# Altium integrated library alexsb.IntLib: 281 symbols (part 1 of 2)
Pins are listed as number, name and electrical type; pins without a type are passive.

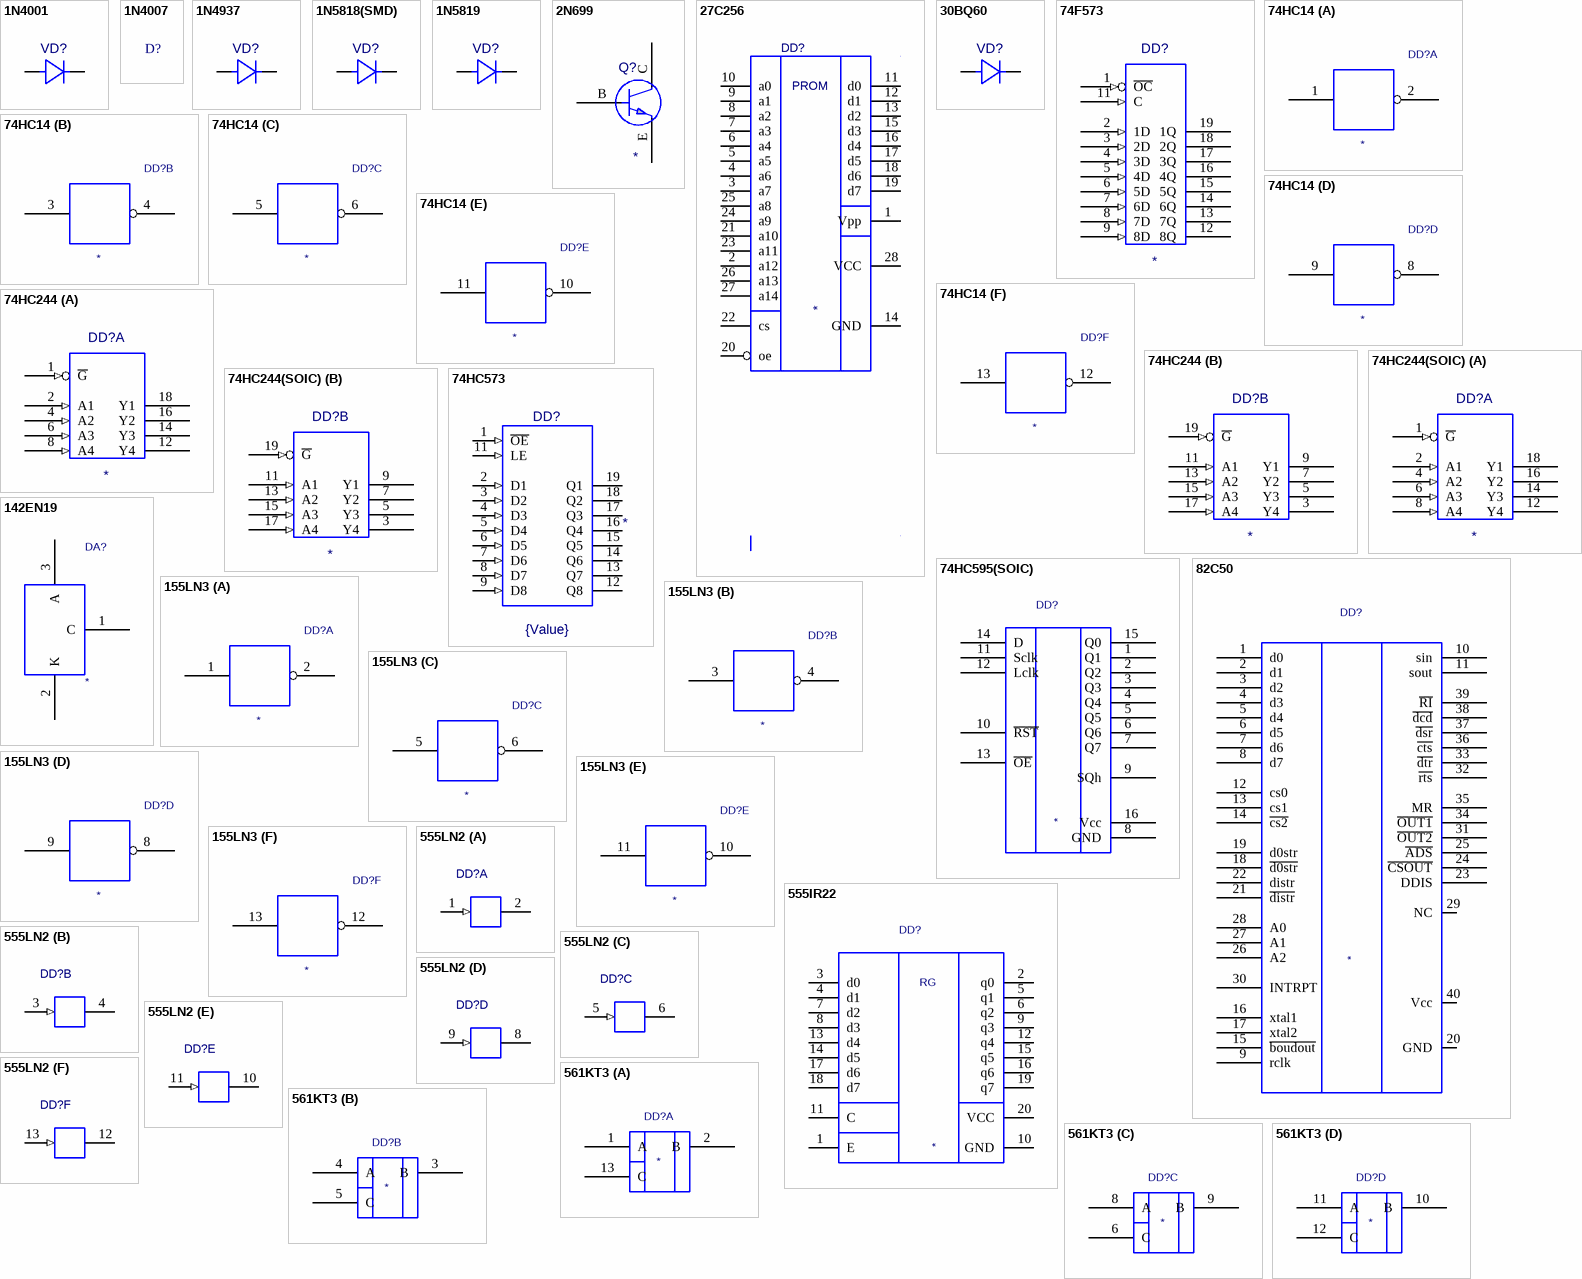
[diagram p0: symbols 1N4001 to 561KT3]

## 1N4001
designator VD?  (value not drawn)
Lead-Mounted Silicon Rectifier, Diffused Junction; Value: {Value}
footprint DO-41
pins: 1, 2

## 1N4007
designator D?  (value not drawn)
Lead-Mounted Silicon Rectifier, Diffused Junction; Value: *
footprint DO-41_1N4007(Primary)

## 1N4937
designator VD?  (value not drawn)
Lead-Mounted Silicon Rectifier, Diffused Junction; Value: {Value}
footprint DO-41
pins: 1, 2

## 1N5818(SMD)
designator VD?  (value not drawn)
1N5818(SMD); Value: {Value}
footprint 1N5818(SMD)
pins: 1, 2

## 1N5819
designator VD?  (value not drawn)
Schottky Barrier Rectifier, 1 Ampere; Value: {Value}
footprint DO-41_1N5819(Primary)
pins: A, K

## 2N699
designator Q?
General Purpose NPN Transistor; Value: {Value}
pins: B, C, E

## 27C256
designator DD?
27C256; Value: *
footprint DIP28
pins: 1 Vpp, 2 a12, 3 a7, 4 a6, 5 a5, 6 a4, 7 a3, 8 a2, 9 a1, 10 a0, 11 d0, 12 d1, 13 d2, 14 GND (power), 15 d3, 16 d4, 17 d5, 18 d6, 19 d7, 20 oe, 21 a10, 22 cs, 23 a11, 24 a9, 25 a8, 26 a13, 27 a14, 28 VCC (power)
text: PROM

## 30BQ60
designator VD?  (value not drawn)
30BQ60; Value: {Value}
footprint SMC
pins: 1, 2

## 74F573
designator DD?
Octal Transparent LATCHES 3-State; Value: *
footprint DIP20
pins: 1 ~{OC} (in), 2 1D (in), 3 2D (in), 4 3D (in), 5 4D (in), 6 5D (in), 7 6D (in), 8 7D (in), 9 8D (in), 10 GND (power) hidden, 11 C (in), 12 8Q (hiz), 13 7Q (hiz), 14 6Q (hiz), 15 5Q (hiz), 16 4Q (hiz), 17 3Q (hiz), 18 2Q (hiz), 19 1Q (hiz), 20 VCC (power) hidden
1 alternate drawing of the same symbol

## 74HC14
designator DD?
74HC14; Value: *
footprint DIP14
pins on every part: 7 GND (power) hidden, 14 Vcc (power) hidden
part A pins: 1 0, 2 0
part B pins: 3 0, 4 0
part C pins: 5 0, 6 0
part D pins: 8 0, 9 0
part E pins: 10 0, 11 0
part F pins: 12 0, 13 0

## 74HC244
designator DD?
Octal BUFFERS and LINE DRIVERS with 3-State Outputs; Value: *
footprint DIP20
pins on every part: 10 GND (power) hidden, 20 VCC (power) hidden
part A pins: 1 ~{G} (in), 2 A1 (in), 4 A2 (in), 6 A3 (in), 8 A4 (in), 12 Y4 (hiz), 14 Y3 (hiz), 16 Y2 (hiz), 18 Y1 (hiz)
part B pins: 3 Y4 (hiz), 5 Y3 (hiz), 7 Y2 (hiz), 9 Y1 (hiz), 11 A1 (in), 13 A2 (in), 15 A3 (in), 17 A4 (in), 19 ~{G} (in)
1 alternate drawing of the same symbol

## 74HC244(SOIC)
designator DD?
Octal BUFFERS and LINE DRIVERS with 3-State Outputs; Value: *
footprint SO-G20/G7.1
pins on every part: 10 GND (power) hidden, 20 VCC (power) hidden
part A pins: 1 ~{G} (in), 2 A1 (in), 4 A2 (in), 6 A3 (in), 8 A4 (in), 12 Y4 (hiz), 14 Y3 (hiz), 16 Y2 (hiz), 18 Y1 (hiz)
part B pins: 3 Y4 (hiz), 5 Y3 (hiz), 7 Y2 (hiz), 9 Y1 (hiz), 11 A1 (in), 13 A2 (in), 15 A3 (in), 17 A4 (in), 19 ~{G} (in)
1 alternate drawing of the same symbol

## 74HC573
designator DD?  value {Value}
Octal Transparent D-Type Latches with 3-State Outputs; OriginalName: SN74ABT573ADW; ComponentField1: Power pins are hidden; ComponentField2: Published 8-Jun-2000.
footprint SO-G20/G7.1
pins: 1 ~{OE} (in), 2 D1 (in), 3 D2 (in), 4 D3 (in), 5 D4 (in), 6 D5 (in), 7 D6 (in), 8 D7 (in), 9 D8 (in), 10 GND (power) hidden, 11 LE (in), 12 Q8 (hiz), 13 Q7 (hiz), 14 Q6 (hiz), 15 Q5 (hiz), 16 Q4 (hiz), 17 Q3 (hiz), 18 Q2 (hiz), 19 Q1 (hiz), 20 VCC (power) hidden

## 74HC595(SOIC)
designator DD?
74HC595(SOIC); Value: *
footprint SO16
pins: 1 Q1, 2 Q2, 3 Q3, 4 Q4, 5 Q5, 6 Q6, 7 Q7, 8 GND, 9 SQh, 10 ~{RST}, 11 Sclk, 12 Lclk, 13 ~{OE}, 14 D, 15 Q0, 16 Vcc

## 82C50
designator DD?
82C50; Value: *
footprint DIP40
pins: 1 d0, 2 d1, 3 d2, 4 d3, 5 d4, 6 d5, 7 d6, 8 d7, 9 rclk, 10 sin, 11 sout, 12 cs0, 13 cs1, 14 ~{cs2}, 15 ~{boudout}, 16 xtal1, 17 xtal2, 18 ~{d0str}, 19 d0str, 20 GND, 21 ~{distr}, 22 distr, 23 DDIS, 24 ~{CSOUT}, 25 ~{ADS}, 26 A2, 27 A1, 28 A0, 29 NC, 30 INTRPT, 31 ~{OUT2}, 32 ~{rts}, 33 ~{dtr}, 34 ~{OUT1}, 35 MR, 36 ~{cts}, 37 ~{dsr}, 38 ~{dcd}, 39 ~{RI}, 40 Vcc

## 142EN19
designator DA?
142EN19; Value: *
footprint TO-92
pins: 1 C, 2 K, 3 A

## 155LN3
designator DD?
155LN3; Value: *
footprint DIP14
pins on every part: 7 0v (power) hidden, 14 +5v (power) hidden
part A pins: 1, 2
part B pins: 3, 4
part C pins: 5, 6
part D pins: 8, 9
part E pins: 10, 11
part F pins: 12, 13

## 555IR22
designator DD?
555IR22; Value: *
footprint DIP20
pins: 1 E, 2 q0, 3 d0, 4 d1, 5 q1, 6 q2, 7 d2, 8 d3, 9 q3, 10 GND (power), 11 C, 12 q4, 13 d4, 14 d5, 15 q5, 16 q6, 17 d6, 18 d7, 19 q7, 20 VCC (power)
text: RG

## 555LN2
designator DD?  (value not drawn)
555LN2; Value: *
footprint DIP14
pins on every part: 7 vcc (power) hidden, 14 0v (power) hidden
part A pins: 1 in (in), 2 out (oe)
part B pins: 3 in (in), 4 out (oe)
part C pins: 5 in (in), 6 out (oe)
part D pins: 8 out (oe), 9 in (in)
part E pins: 10 out (oe), 11 in (in)
part F pins: 12 out (oe), 13 in (in)

## 561KT3
designator DD?
561KT3; Value: *
footprint DIP14
pins on every part: 7 GND (power) hidden, 14 VCC (power) hidden
part A pins: 1 A, 2 B, 13 C
part B pins: 3 B, 4 A, 5 C
part C pins: 6 C, 8 A, 9 B
part D pins: 10 B, 11 A, 12 C

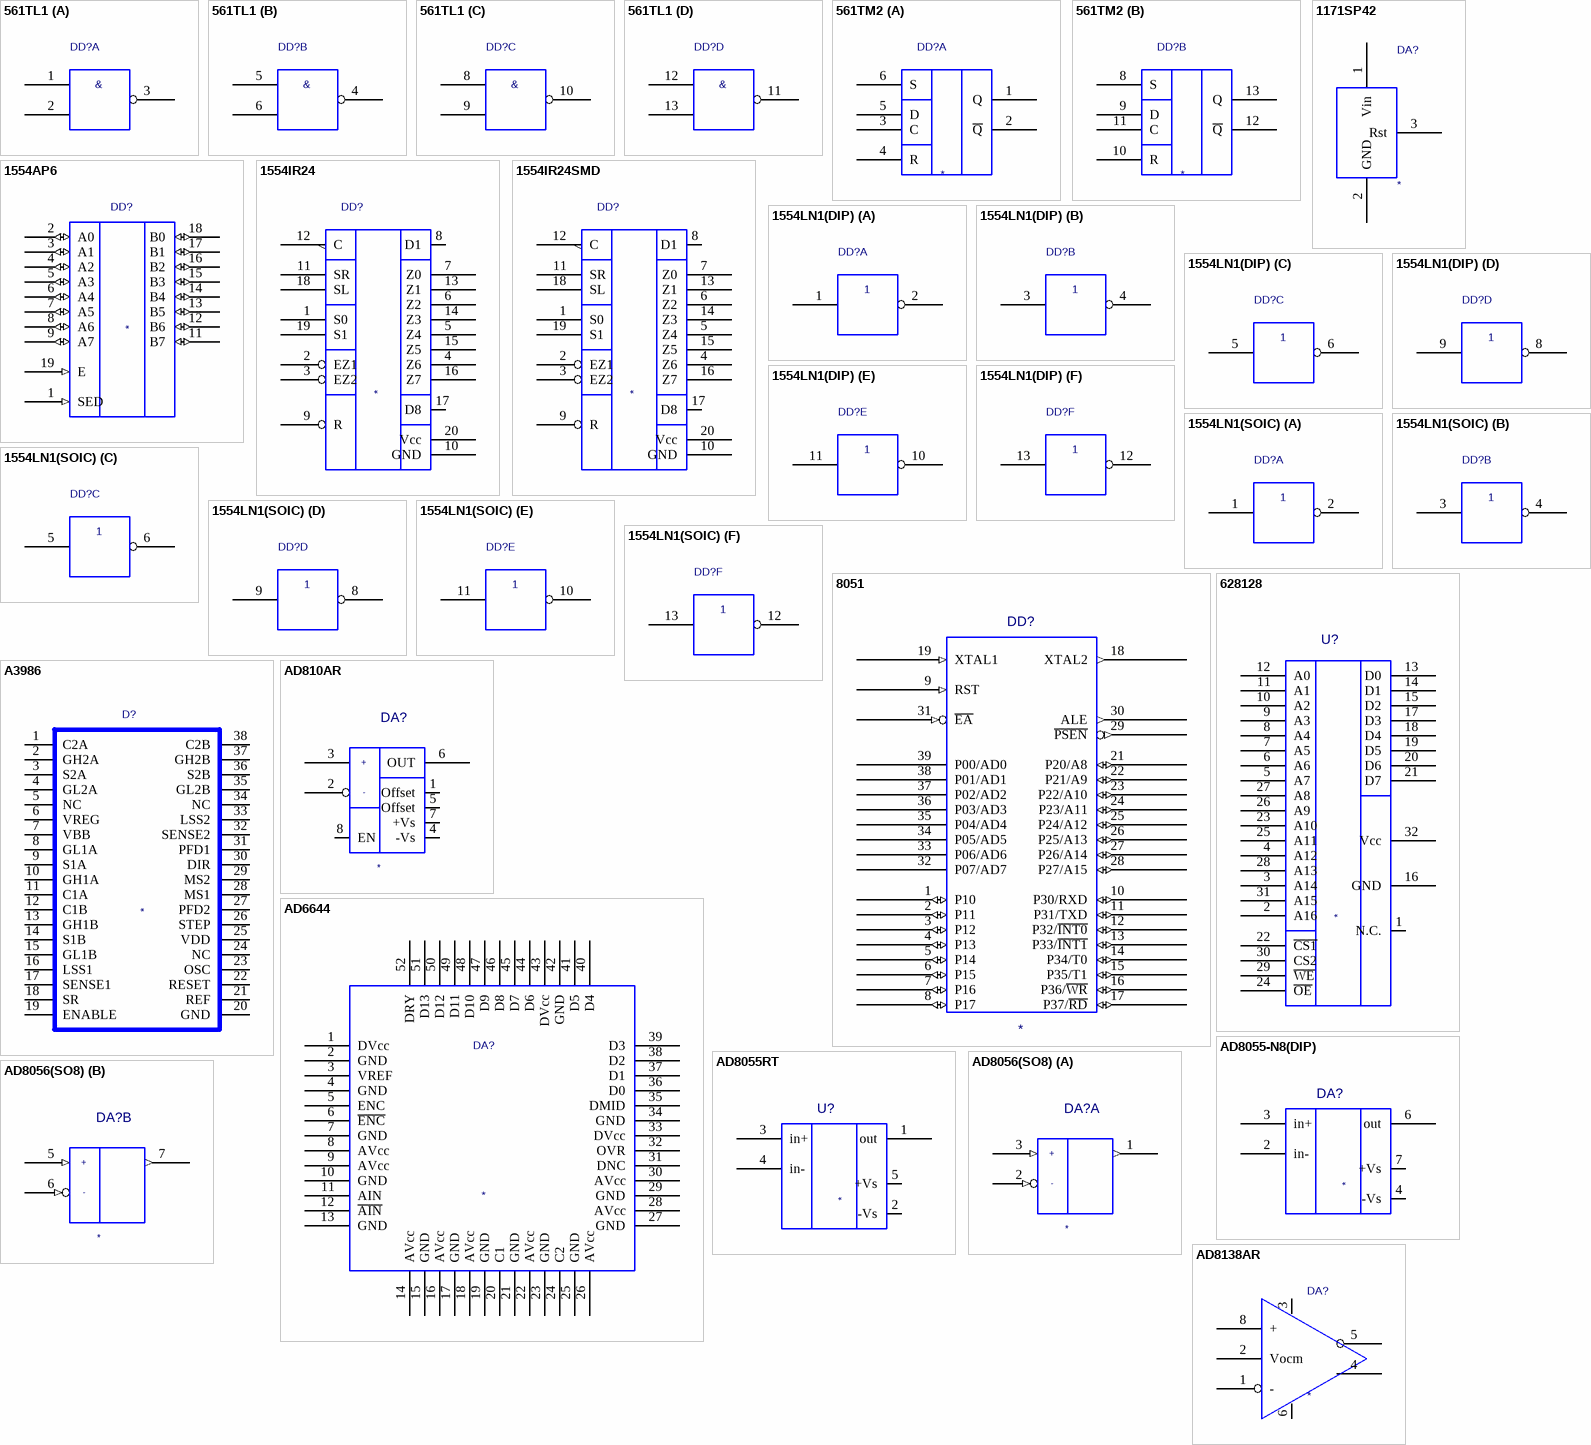
[diagram p1: symbols 561TL1 to AD8138AR]

## 561TL1
designator DD?  (value not drawn)
561TL1; Value: *
footprint DIP14
pins on every part: 7 GND (power) hidden, 14 Vcc (power) hidden
part A pins: 1 in, 2 in, 3 out
part B pins: 4 out, 5 in, 6 in
part C pins: 8 in, 9 in, 10 out
part D pins: 11 out, 12 in, 13 in
part A text: &
part B text: &
part C text: &
part D text: &

## 561TM2
designator DD?
561TM2; Value: *
footprint DIP14
pins on every part: 7 GND (power) hidden, 14 VCC (power) hidden
part A pins: 1 Q, 2 ~{Q}, 3 C, 4 R, 5 D, 6 S
part B pins: 8 S, 9 D, 10 R, 11 C, 12 ~{Q}, 13 Q

## 1171SP42
designator DA?
1171SP42; Value: *
footprint TO-92
pins: 1 Vin, 2 GND, 3 Rst

## 1554AP6
designator DD?
1554AP6; Value: *
footprint DIP20
pins: 1 SED (in), 2 A0 (io), 3 A1 (io), 4 A2 (io), 5 A3 (io), 6 A4 (io), 7 A5 (io), 8 A6 (io), 9 A7 (io), 10 GND (power) hidden, 11 B7 (io), 12 B6 (io), 13 B5 (io), 14 B4 (io), 15 B3 (io), 16 B2 (io), 17 B1 (io), 18 B0 (io), 19 E (in), 20 Vcc (power) hidden

## 1554IR24
designator DD?
1554IR24; Value: *
footprint DIP20
pins: 1 S0, 2 EZ1, 3 EZ2, 4 Z6, 5 Z4, 6 Z2, 7 Z0, 8 D1, 9 R, 10 GND, 11 SR, 12 C, 13 Z1, 14 Z3, 15 Z5, 16 Z7, 17 D8, 18 SL, 19 S1, 20 Vcc

## 1554IR24SMD
designator DD?
1554IR24SMD; Value: *
footprint SOJ20
pins: 1 S0, 2 EZ1, 3 EZ2, 4 Z6, 5 Z4, 6 Z2, 7 Z0, 8 D1, 9 R, 10 GND, 11 SR, 12 C, 13 Z1, 14 Z3, 15 Z5, 16 Z7, 17 D8, 18 SL, 19 S1, 20 Vcc

## 1554LN1(DIP)
designator DD?  (value not drawn)
1554LN1(DIP); Value: *
footprint DIP14
pins on every part: 7 GND (power) hidden, 14 Vcc (power) hidden
part A pins: 1 in, 2 out
part B pins: 3 in, 4 out
part C pins: 5 in, 6 out
part D pins: 8 out, 9 in
part E pins: 10 out, 11 in
part F pins: 12 out, 13 in

## 1554LN1(SOIC)
designator DD?  (value not drawn)
1554LN1(SOIC); Value: *
footprint SO14
pins on every part: 7 GND (power) hidden, 14 Vcc (power) hidden
part A pins: 1 in, 2 out
part B pins: 3 in, 4 out
part C pins: 5 in, 6 out
part D pins: 8 out, 9 in
part E pins: 10 out, 11 in
part F pins: 12 out, 13 in

## 8051
designator DD?
8-Bit Control-Oriented Microcomputer; Value: *
footprint DIP40
pins: 1 P10 (io), 2 P11 (io), 3 P12 (io), 4 P13 (io), 5 P14 (io), 6 P15 (io), 7 P16 (io), 8 P17 (io), 9 RST (in), 10 P30/RXD (io), 11 P31/TXD (io), 12 P32/~{INT0} (io), 13 P33/~{INT1} (io), 14 P34/T0 (io), 15 P35/T1 (io), 16 P36/~{WR} (io), 17 P37/~{RD} (io), 18 XTAL2 (out), 19 XTAL1 (in), 20 0v (power) hidden, 21 P20/A8 (io), 22 P21/A9 (io), 23 P22/A10 (io), 24 P23/A11 (io), 25 P24/A12 (io), 26 P25/A13 (io), 27 P26/A14 (io), 28 P27/A15 (io), 29 ~{PSEN} (out), 30 ALE (out), 31 ~{EA} (in), 32 P07/AD7 (oe), 33 P06/AD6 (oe), 34 P05/AD5 (oe), 35 P04/AD4 (oe), 36 P03/AD3 (oe), 37 P02/AD2 (oe), 38 P01/AD1 (oe), 39 P00/AD0 (oe), 40 5v (power) hidden
1 alternate drawing of the same symbol

## 628128
designator U?
628128; Value: *
pins: 1 N.C., 2 A16, 3 A14, 4 A12, 5 A7, 6 A6, 7 A5, 8 A4, 9 A3, 10 A2, 11 A1, 12 A0, 13 D0, 14 D1, 15 D2, 16 GND, 17 D3, 18 D4, 19 D5, 20 D6, 21 D7, 22 ~{CS1}, 23 A10, 24 ~{OE}, 25 A11, 26 A9, 27 A8, 28 A13, 29 ~{WE}, 30 CS2, 31 A15, 32 Vcc

## A3986
designator D?
A3986; Value: *
footprint TSSOP-38
pins: 1 C2A, 2 GH2A, 3 S2A, 4 GL2A, 5 NC, 6 VREG, 7 VBB, 8 GL1A, 9 S1A, 10 GH1A, 11 C1A, 12 C1B, 13 GH1B, 14 S1B, 15 GL1B, 16 LSS1, 17 SENSE1, 18 SR, 19 ENABLE, 20 GND, 21 REF, 22 RESET, 23 OSC, 24 NC, 25 VDD, 26 STEP, 27 PFD2, 28 MS1, 29 MS2, 30 DIR, 31 PFD1, 32 SENSE2, 33 LSS2, 34 NC, 35 GL2B, 36 S2B, 37 GH2B, 38 C2B

## AD810AR
designator DA?
AD810AR; Value: *
footprint SO8
pins: 1 Offset, 2 in-, 3 IN+, 4 -Vs, 5 Offset, 6 OUT, 7 +Vs, 8 EN
text: +; -

## AD6644
designator DA?
AD6644; Value: *
footprint AD6644
pins: 1 DVcc, 2 GND, 3 VREF, 4 GND, 5 ENC, 6 ~{ENC}, 7 GND, 8 AVcc, 9 AVcc, 10 GND, 11 AIN, 12 ~{AIN}, 13 GND, 14 AVcc, 15 GND, 16 AVcc, 17 GND, 18 AVcc, 19 GND, 20 C1, 21 GND, 22 AVcc, 23 GND, 24 C2, 25 GND, 26 AVcc, 27 GND, 28 AVcc, 29 GND, 30 AVcc, 31 DNC, 32 OVR, 33 DVcc, 34 GND, 35 DMID, 36 D0, 37 D1, 38 D2, 39 D3, 40 D4, 41 D5, 42 GND, 43 DVcc, 44 D6, 45 D7, 46 D8, 47 D9, 48 D10, 49 D11, 50 D12, 51 D13, 52 DRY

## AD8055-N8(DIP)
designator DA?
AD8055-N8(DIP); Value: *
footprint DIP8
pins: 1 hidden, 2 in-, 3 in+, 4 -Vs, 5 hidden, 6 out, 7 +Vs, 8 hidden

## AD8055RT
designator U?
AD8055RT; Value: *
pins: 1 out, 2 -Vs, 3 in+, 4 in-, 5 +Vs

## AD8056(SO8)
designator DA?
AD8056(SO8); Value: *
footprint SO8
pins on every part: 4 -Vs (power) hidden, 8 +Vs (power) hidden
part A pins: 1 OUT (out), 2 in- (in), 3 IN+ (in)
part B pins: 5 IN+ (in), 6 in- (in), 7 OUT (out)
part A text: +; -
part B text: +; -

## AD8138AR
designator DA?
AD8138AR; Value: *
footprint SO8
pins: 1 -, 2 Vocm, 3 v+, 4 out, 5 ~{out}, 6 v-, 7 hidden, 8 +

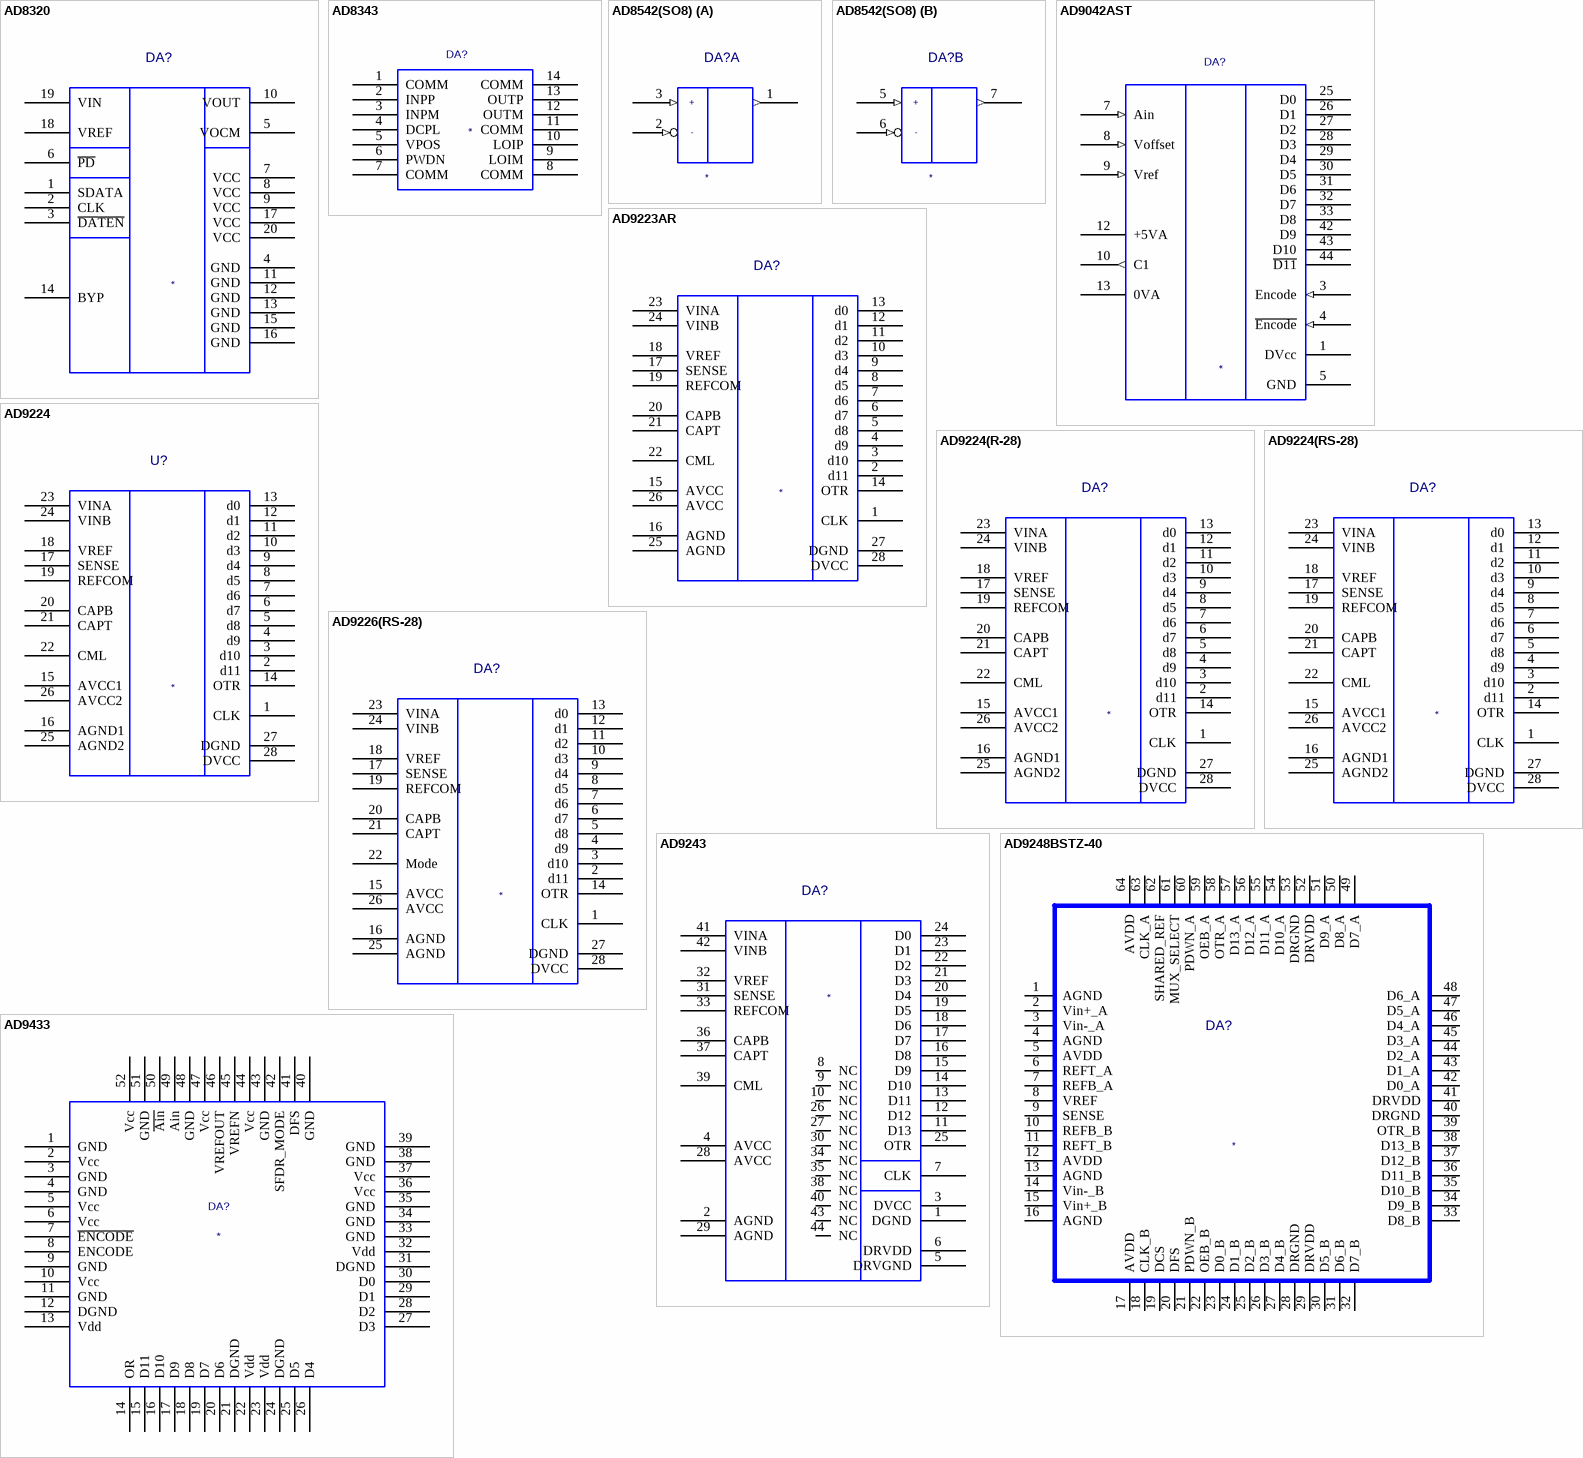
[diagram p2: symbols AD8320 to AD9433]

## AD8320
designator DA?
AD8320; Value: *
footprint RP20
pins: 1 SDATA, 2 CLK, 3 ~{DATEN}, 4 GND, 5 VOCM, 6 ~{PD}, 7 VCC, 8 VCC, 9 VCC, 10 VOUT, 11 GND, 12 GND, 13 GND, 14 BYP, 15 GND, 16 GND, 17 VCC, 18 VREF, 19 VIN, 20 VCC

## AD8343
designator DA?
AD8343; Value: *
footprint TSSOP14_065
pins: 1 COMM, 2 INPP, 3 INPM, 4 DCPL, 5 VPOS, 6 PWDN, 7 COMM, 8 COMM, 9 LOIM, 10 LOIP, 11 COMM, 12 OUTM, 13 OUTP, 14 COMM

## AD8542(SO8)
designator DA?
AD8542(SO8); Value: *
footprint SO8
pins on every part: 4 -Vs (power) hidden, 8 +Vs (power) hidden
part A pins: 1 OUT (out), 2 in- (in), 3 IN+ (in)
part B pins: 5 IN+ (in), 6 in- (in), 7 OUT (out)
part A text: +; -
part B text: +; -

## AD9042AST
designator DA?
AD9042AST; Value: *
footprint TQFP44
pins: 1 DVcc (power), 2 DVcc (power) hidden, 3 Encode (in), 4 ~{Encode} (in), 5 GND (power), 6 GND (power) hidden, 7 Ain (in), 8 Voffset (in), 9 Vref (in), 10 C1 (out), 11 AVcc (power) hidden, 12 +5VA (power), 13 0VA (power), 14 0VA (power) hidden, 15 +5VA (power) hidden, 16 +5VA (power) hidden, 17 0VA (power) hidden, 18 0VA (power) hidden, 19 +5VA (power) hidden, 20 +5VA (power) hidden, 21 0VA (power) hidden, 22 0VA (power) hidden, 23 NC hidden, 24 0V (power) hidden, 25 D0, 26 D1, 27 D2, 28 D3, 29 D4, 30 D5, 31 D6, 32 D7, 33 D8, 34 0V (power) hidden, 35 0V (power) hidden, 36 +5V (power) hidden, 37 +5V (power) hidden, 38 0V (power) hidden, 39 0V (power) hidden, 40 +5V (power) hidden, 41 +5V (power) hidden, 42 D9, 43 D10, 44 ~{D11}

## AD9223AR
designator DA?
AD9223AR; Value: *
footprint SOIC28(R-28)
pins: 1 CLK, 2 d11, 3 d10, 4 d9, 5 d8, 6 d7, 7 d6, 8 d5, 9 d4, 10 d3, 11 d2, 12 d1, 13 d0, 14 OTR, 15 AVCC, 16 AGND, 17 SENSE, 18 VREF, 19 REFCOM, 20 CAPB, 21 CAPT, 22 CML, 23 VINA, 24 VINB, 25 AGND, 26 AVCC, 27 DGND, 28 DVCC

## AD9224
designator U?
AD9224; Value: *
pins: 1 CLK, 2 d11, 3 d10, 4 d9, 5 d8, 6 d7, 7 d6, 8 d5, 9 d4, 10 d3, 11 d2, 12 d1, 13 d0, 14 OTR, 15 AVCC1, 16 AGND1, 17 SENSE, 18 VREF, 19 REFCOM, 20 CAPB, 21 CAPT, 22 CML, 23 VINA, 24 VINB, 25 AGND2, 26 AVCC2, 27 DGND, 28 DVCC

## AD9224(R-28)
designator DA?
AD9224(R-28); Value: *
footprint SOIC28(R-28)
pins: 1 CLK, 2 d11, 3 d10, 4 d9, 5 d8, 6 d7, 7 d6, 8 d5, 9 d4, 10 d3, 11 d2, 12 d1, 13 d0, 14 OTR, 15 AVCC1, 16 AGND1, 17 SENSE, 18 VREF, 19 REFCOM, 20 CAPB, 21 CAPT, 22 CML, 23 VINA, 24 VINB, 25 AGND2, 26 AVCC2, 27 DGND, 28 DVCC

## AD9224(RS-28)
designator DA?
AD9224(RS-28); Value: *
footprint SSOP_28
pins: 1 CLK, 2 d11, 3 d10, 4 d9, 5 d8, 6 d7, 7 d6, 8 d5, 9 d4, 10 d3, 11 d2, 12 d1, 13 d0, 14 OTR, 15 AVCC1, 16 AGND1, 17 SENSE, 18 VREF, 19 REFCOM, 20 CAPB, 21 CAPT, 22 CML, 23 VINA, 24 VINB, 25 AGND2, 26 AVCC2, 27 DGND, 28 DVCC

## AD9226(RS-28)
designator DA?
AD9226(RS-28); Value: *
footprint SSOP_28
pins: 1 CLK, 2 d11, 3 d10, 4 d9, 5 d8, 6 d7, 7 d6, 8 d5, 9 d4, 10 d3, 11 d2, 12 d1, 13 d0, 14 OTR, 15 AVCC, 16 AGND, 17 SENSE, 18 VREF, 19 REFCOM, 20 CAPB, 21 CAPT, 22 Mode, 23 VINA, 24 VINB, 25 AGND, 26 AVCC, 27 DGND, 28 DVCC

## AD9243
designator DA?
AD9243; Value: *
footprint TQFP44
pins: 1 DGND, 2 AGND, 3 DVCC, 4 AVCC, 5 DRVGND, 6 DRVDD, 7 CLK, 8 NC, 9 NC, 10 NC, 11 D13, 12 D12, 13 D11, 14 D10, 15 D9, 16 D8, 17 D7, 18 D6, 19 D5, 20 D4, 21 D3, 22 D2, 23 D1, 24 D0, 25 OTR, 26 NC, 27 NC, 28 AVCC, 29 AGND, 30 NC, 31 SENSE, 32 VREF, 33 REFCOM, 34 NC, 35 NC, 36 CAPB, 37 CAPT, 38 NC, 39 CML, 40 NC, 41 VINA, 42 VINB, 43 NC, 44 NC

## AD9248BSTZ-40
designator DA?
AD9248BSTZ-40; Value: *
footprint AD9248
pins: 1 AGND, 2 Vin+_A, 3 Vin-_A, 4 AGND, 5 AVDD, 6 REFT_A, 7 REFB_A, 8 VREF, 9 SENSE, 10 REFB_B, 11 REFT_B, 12 AVDD, 13 AGND, 14 Vin-_B, 15 Vin+_B, 16 AGND, 17 AVDD, 18 CLK_B, 19 DCS, 20 DFS, 21 PDWN_B, 22 OEB_B, 23 D0_B, 24 D1_B, 25 D2_B, 26 D3_B, 27 D4_B, 28 DRGND, 29 DRVDD, 30 D5_B, 31 D6_B, 32 D7_B, 33 D8_B, 34 D9_B, 35 D10_B, 36 D11_B, 37 D12_B, 38 D13_B, 39 OTR_B, 40 DRGND, 41 DRVDD, 42 D0_A, 43 D1_A, 44 D2_A, 45 D3_A, 46 D4_A, 47 D5_A, 48 D6_A, 49 D7_A, 50 D8_A, 51 D9_A, 52 DRVDD, 53 DRGND, 54 D10_A, 55 D11_A, 56 D12_A, 57 D13_A, 58 OTR_A, 59 OEB_A, 60 PDWN_A, 61 MUX_SELECT, 62 SHARED_REF, 63 CLK_A, 64 AVDD

## AD9433
designator DA?
AD9433; Value: *
footprint AD9433
pins: 1 GND, 2 Vcc, 3 GND, 4 GND, 5 Vcc, 6 Vcc, 7 ~{ENCODE}, 8 ENCODE, 9 GND, 10 Vcc, 11 GND, 12 DGND, 13 Vdd, 14 OR, 15 D11, 16 D10, 17 D9, 18 D8, 19 D7, 20 D6, 21 DGND, 22 Vdd, 23 Vdd, 24 DGND, 25 D5, 26 D4, 27 D3, 28 D2, 29 D1, 30 D0, 31 DGND, 32 Vdd, 33 GND, 34 GND, 35 GND, 36 Vcc, 37 Vcc, 38 GND, 39 GND, 40 GND, 41 DFS, 42 SFDR_MODE, 43 GND, 44 Vcc, 45 VREFN, 46 VREFOUT, 47 Vcc, 48 GND, 49 Ain, 50 ~{Ain}, 51 GND, 52 Vcc

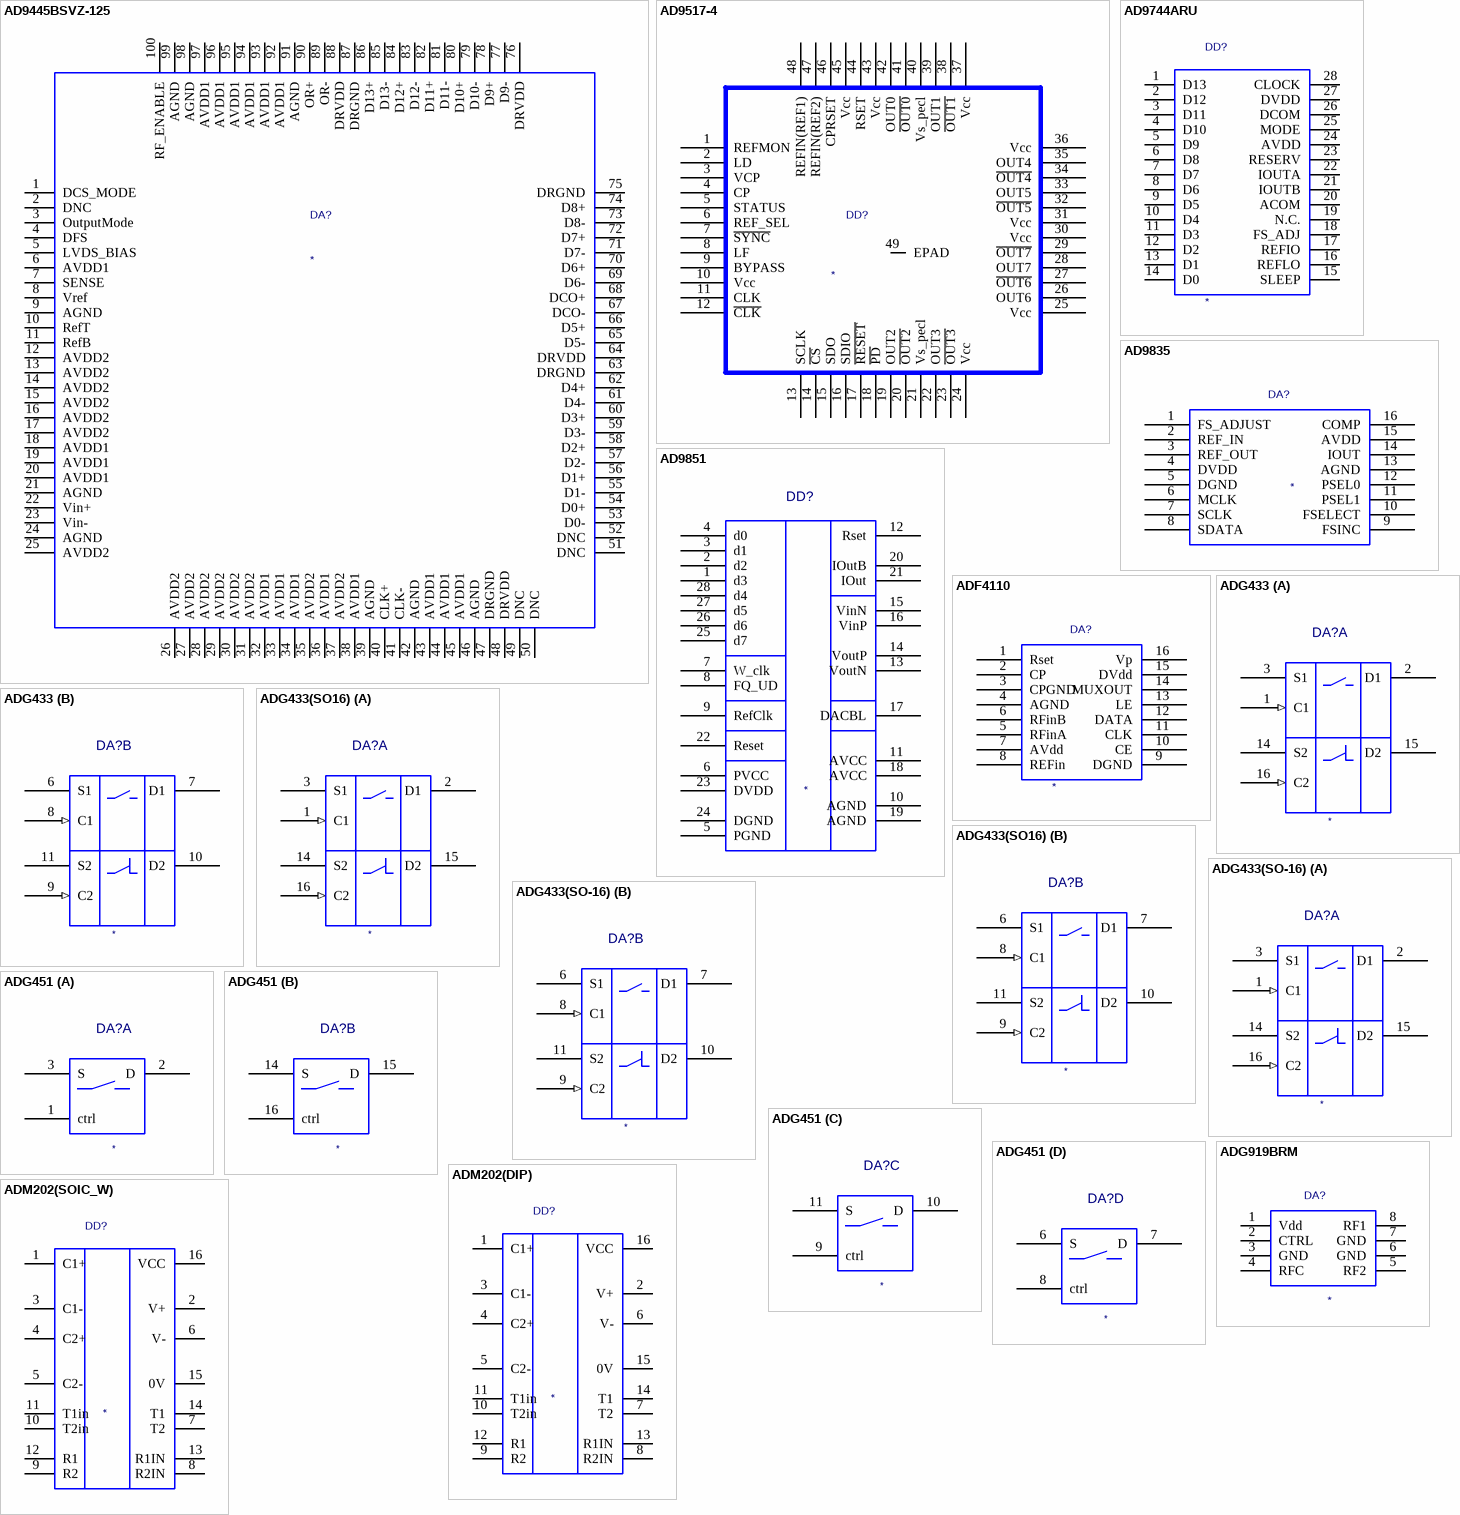
[diagram p3: symbols AD9445BSVZ-125 to ADM202(SOIC_W)]

## AD9445BSVZ-125
designator DA?
AD9445BSVZ-125; Value: *
footprint AD9445
pins: 1 DCS_MODE, 2 DNC, 3 OutputMode, 4 DFS, 5 LVDS_BIAS, 6 AVDD1, 7 SENSE, 8 Vref, 9 AGND, 10 RefT, 11 RefB, 12 AVDD2, 13 AVDD2, 14 AVDD2, 15 AVDD2, 16 AVDD2, 17 AVDD2, 18 AVDD1, 19 AVDD1, 20 AVDD1, 21 AGND, 22 Vin+, 23 Vin-, 24 AGND, 25 AVDD2, 26 AVDD2, 27 AVDD2, 28 AVDD2, 29 AVDD2, 30 AVDD2, 31 AVDD2, 32 AVDD1, 33 AVDD1, 34 AVDD1, 35 AVDD2, 36 AVDD1, 37 AVDD2, 38 AVDD1, 39 AGND, 40 CLK+, 41 CLK-, 42 AGND, 43 AVDD1, 44 AVDD1, 45 AVDD1, 46 AGND, 47 DRGND, 48 DRVDD, 49 DNC, 50 DNC, 51 DNC, 52 DNC, 53 D0-, 54 D0+, 55 D1-, 56 D1+, 57 D2-, 58 D2+, 59 D3-, 60 D3+, 61 D4-, 62 D4+, 63 DRGND, 64 DRVDD, 65 D5-, 66 D5+, 67 DCO-, 68 DCO+, 69 D6-, 70 D6+, 71 D7-, 72 D7+, 73 D8-, 74 D8+, 75 DRGND, 76 DRVDD, 77 D9-, 78 D9+, 79 D10-, 80 D10+, 81 D11-, 82 D11+, 83 D12-, 84 D12+, 85 D13-, 86 D13+, 87 DRGND, 88 DRVDD, 89 OR-, 90 OR+, 91 AGND, 92 AVDD1, 93 AVDD1, 94 AVDD1, 95 AVDD1, 96 AVDD1, 97 AVDD1, 98 AGND, 99 AGND, 100 RF_ENABLE

## AD9517-4
designator DD?
AD9517-4; Value: *
footprint AD9517
pins: 1 REFMON, 2 LD, 3 VCP, 4 CP, 5 STATUS, 6 REF_SEL, 7 ~{SYNC}, 8 LF, 9 BYPASS, 10 Vcc, 11 CLK, 12 ~{CLK}, 13 SCLK, 14 ~{CS}, 15 SDO, 16 SDIO, 17 ~{RESET}, 18 ~{PD}, 19 OUT2, 20 ~{OUT2}, 21 Vs_pecl, 22 OUT3, 23 ~{OUT3}, 24 Vcc, 25 Vcc, 26 OUT6, 27 ~{OUT6}, 28 OUT7, 29 ~{OUT7}, 30 Vcc, 31 Vcc, 32 ~{OUT5}, 33 OUT5, 34 ~{OUT4}, 35 OUT4, 36 Vcc, 37 Vcc, 38 ~{OUT1}, 39 OUT1, 40 Vs_pecl, 41 ~{OUT0}, 42 OUT0, 43 Vcc, 44 RSET, 45 Vcc, 46 CPRSET, 47 REFIN(REF2), 48 REFIN(REF1), 49 EPAD

## AD9744ARU
designator DD?
AD9744ARU; Value: *
footprint TSSOP28_065
pins: 1 D13, 2 D12, 3 D11, 4 D10, 5 D9, 6 D8, 7 D7, 8 D6, 9 D5, 10 D4, 11 D3, 12 D2, 13 D1, 14 D0, 15 SLEEP, 16 REFLO, 17 REFIO, 18 FS_ADJ, 19 N.C., 20 ACOM, 21 IOUTB, 22 IOUTA, 23 RESERV, 24 AVDD, 25 MODE, 26 DCOM, 27 DVDD, 28 CLOCK

## AD9835
designator DA?
AD9835; Value: *
footprint TSSOP16_065
pins: 1 FS_ADJUST, 2 REF_IN, 3 REF_OUT, 4 DVDD, 5 DGND, 6 MCLK, 7 SCLK, 8 SDATA, 9 FSINC, 10 FSELECT, 11 PSEL1, 12 PSEL0, 13 AGND, 14 IOUT, 15 AVDD, 16 COMP

## AD9851
designator DD?
AD9851; Value: *
footprint SSOP_28
pins: 1 d3, 2 d2, 3 d1, 4 d0, 5 PGND, 6 PVCC, 7 W_clk, 8 FQ_UD, 9 RefClk, 10 AGND, 11 AVCC, 12 Rset, 13 VoutN, 14 VoutP, 15 VinN, 16 VinP, 17 DACBL, 18 AVCC, 19 AGND, 20 IOutB, 21 IOut, 22 Reset, 23 DVDD, 24 DGND, 25 d7, 26 d6, 27 d5, 28 d4

## ADF4110
designator DA?
ADF4110; Value: *
footprint TSSOP16_065
pins: 1 Rset, 2 CP, 3 CPGND, 4 AGND, 5 RFinA, 6 RFinB, 7 AVdd, 8 REFin, 9 DGND, 10 CE, 11 CLK, 12 DATA, 13 LE, 14 MUXOUT, 15 DVdd, 16 Vp

## ADG433
designator DA?
ADG433; Value: *
footprint SO16
pins on every part: 4 Vss (power) hidden, 5 AGND (power) hidden, 12 VL (power) hidden, 13 Vdd (power) hidden
part A pins: 1 C1 (in), 2 D1, 3 S1, 14 S2, 15 D2, 16 C2 (in)
part B pins: 6 S1, 7 D1, 8 C1 (in), 9 C2 (in), 10 D2, 11 S2

## ADG433(SO16)
designator DA?
ADG433(SO16); Value: *
footprint SO16
pins on every part: 4 Vss (power) hidden, 5 AGND (power) hidden, 12 VL (power) hidden, 13 Vdd (power) hidden
part A pins: 1 C1 (in), 2 D1, 3 S1, 14 S2, 15 D2, 16 C2 (in)
part B pins: 6 S1, 7 D1, 8 C1 (in), 9 C2 (in), 10 D2, 11 S2

## ADG433(SO-16)
designator DA?
ADG433(SO-16); Value: *
footprint SO16
pins on every part: 4 Vss (power) hidden, 5 AGND (power) hidden, 12 VL (power) hidden, 13 Vdd (power) hidden
part A pins: 1 C1 (in), 2 D1, 3 S1, 14 S2, 15 D2, 16 C2 (in)
part B pins: 6 S1, 7 D1, 8 C1 (in), 9 C2 (in), 10 D2, 11 S2

## ADG451
designator DA?
ADG451; Value: *
footprint DIP16
pins on every part: 4 Vss (power) hidden, 5 GND (power) hidden, 12 VL (power) hidden, 13 Vdd (power) hidden
part A pins: 1 ctrl, 2 D, 3 S
part B pins: 14 S, 15 D, 16 ctrl
part C pins: 9 ctrl, 10 D, 11 S
part D pins: 6 S, 7 D, 8 ctrl

## ADG919BRM
designator DA?
ADG919BRM; Value: *
footprint RM_8
pins: 1 Vdd, 2 CTRL, 3 GND, 4 RFC, 5 RF2, 6 GND, 7 GND, 8 RF1

## ADM202(DIP)
designator DD?
ADM202(DIP); Value: *
footprint DIP16
pins: 1 C1+, 2 V+, 3 C1-, 4 C2+, 5 C2-, 6 V-, 7 T2, 8 R2IN, 9 R2, 10 T2in, 11 T1in, 12 R1, 13 R1IN, 14 T1, 15 0V, 16 VCC

## ADM202(SOIC_W)
designator DD?
ADM202(SOIC_W); Value: *
footprint SOIC16(R-16W)
pins: 1 C1+, 2 V+, 3 C1-, 4 C2+, 5 C2-, 6 V-, 7 T2, 8 R2IN, 9 R2, 10 T2in, 11 T1in, 12 R1, 13 R1IN, 14 T1, 15 0V, 16 VCC

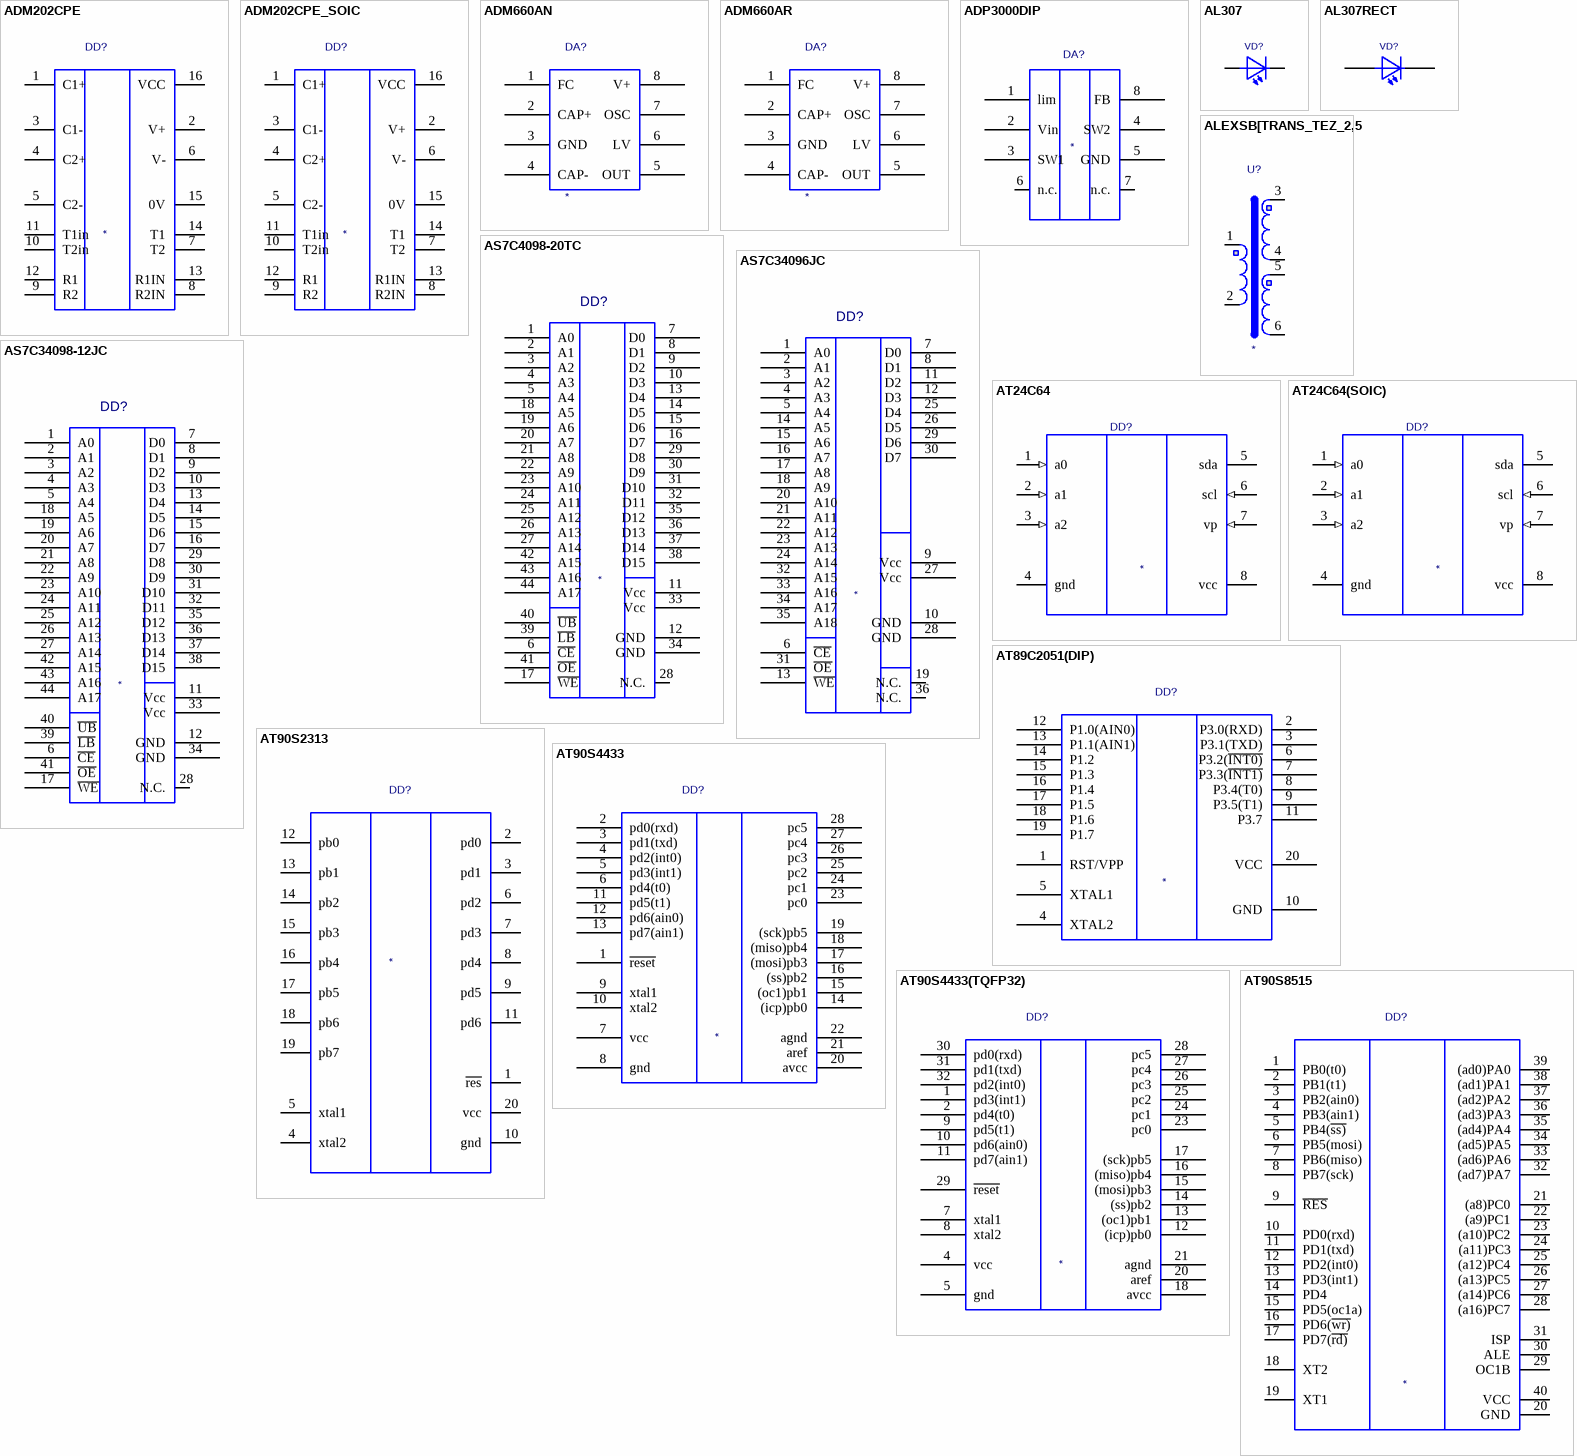
[diagram p4: symbols ADM202CPE to AT90S8515]

## ADM202CPE
designator DD?
ADM202CPE; Value: *
footprint DIP16
pins: 1 C1+, 2 V+, 3 C1-, 4 C2+, 5 C2-, 6 V-, 7 T2, 8 R2IN, 9 R2, 10 T2in, 11 T1in, 12 R1, 13 R1IN, 14 T1, 15 0V, 16 VCC

## ADM202CPE_SOIC
designator DD?
ADM202CPE_SOIC; Value: *
footprint SOIC_16
pins: 1 C1+, 2 V+, 3 C1-, 4 C2+, 5 C2-, 6 V-, 7 T2, 8 R2IN, 9 R2, 10 T2in, 11 T1in, 12 R1, 13 R1IN, 14 T1, 15 0V, 16 VCC

## ADM660AN
designator DA?
ADM660AN; Value: *
footprint DIP8
pins: 1 FC, 2 CAP+, 3 GND, 4 CAP-, 5 OUT, 6 LV, 7 OSC, 8 V+

## ADM660AR
designator DA?
ADM660AR; Value: *
footprint SO8
pins: 1 FC, 2 CAP+, 3 GND, 4 CAP-, 5 OUT, 6 LV, 7 OSC, 8 V+

## ADP3000DIP
designator DA?
ADP3000DIP; Value: *
footprint DIP8
pins: 1 lim, 2 Vin, 3 SW1, 4 SW2, 5 GND, 6 n.c., 7 n.c., 8 FB

## AL307
designator VD?  (value not drawn)
AL307; Value: *
footprint LED100
pins: 1 a, 2 k

## AL307RECT
designator VD?  (value not drawn)
AL307RECT; Value: *
footprint AL307RECT
pins: 1 a, 2 k

## ALEXSB[TRANS_TEZ_2,5
designator U?
ALEXSB[TRANS_TEZ_2,5; Value: *
pins: 1, 2, 3, 4, 5, 6

## AS7C4098-20TC
designator DD?
AS7C4098-20TC; Value: *
footprint TSOP44(400)
pins: 1 A0, 2 A1, 3 A2, 4 A3, 5 A4, 6 ~{CE}, 7 D0, 8 D1, 9 D2, 10 D3, 11 Vcc, 12 GND, 13 D4, 14 D5, 15 D6, 16 D7, 17 ~{WE}, 18 A5, 19 A6, 20 A7, 21 A8, 22 A9, 23 A10, 24 A11, 25 A12, 26 A13, 27 A14, 28 N.C., 29 D8, 30 D9, 31 D10, 32 D11, 33 Vcc, 34 GND, 35 D12, 36 D13, 37 D14, 38 D15, 39 ~{LB}, 40 ~{UB}, 41 ~{OE}, 42 A15, 43 A16, 44 A17

## AS7C34096JC
designator DD?
AS7C34096JC; Value: *
footprint SOJ36-400
pins: 1 A0, 2 A1, 3 A2, 4 A3, 5 A4, 6 ~{CE}, 7 D0, 8 D1, 9 Vcc, 10 GND, 11 D2, 12 D3, 13 ~{WE}, 14 A5, 15 A6, 16 A7, 17 A8, 18 A9, 19 N.C., 20 A10, 21 A11, 22 A12, 23 A13, 24 A14, 25 D4, 26 D5, 27 Vcc, 28 GND, 29 D6, 30 D7, 31 ~{OE}, 32 A15, 33 A16, 34 A17, 35 A18, 36 N.C.

## AS7C34098-12JC
designator DD?
AS7C34098-12JC; Value: *
footprint SOJ44-400
pins: 1 A0, 2 A1, 3 A2, 4 A3, 5 A4, 6 ~{CE}, 7 D0, 8 D1, 9 D2, 10 D3, 11 Vcc, 12 GND, 13 D4, 14 D5, 15 D6, 16 D7, 17 ~{WE}, 18 A5, 19 A6, 20 A7, 21 A8, 22 A9, 23 A10, 24 A11, 25 A12, 26 A13, 27 A14, 28 N.C., 29 D8, 30 D9, 31 D10, 32 D11, 33 Vcc, 34 GND, 35 D12, 36 D13, 37 D14, 38 D15, 39 ~{LB}, 40 ~{UB}, 41 ~{OE}, 42 A15, 43 A16, 44 A17

## AT24C64
designator DD?
AT24C64; Value: *
footprint DIP8
pins: 1 a0 (in), 2 a1 (in), 3 a2 (in), 4 gnd (power), 5 sda (oe), 6 scl (in), 7 vp (in), 8 vcc (power)

## AT24C64(SOIC)
designator DD?
AT24C64(SOIC); Value: *
footprint SO8
pins: 1 a0 (in), 2 a1 (in), 3 a2 (in), 4 gnd (power), 5 sda (oe), 6 scl (in), 7 vp (in), 8 vcc (power)

## AT89C2051(DIP)
designator DD?
AT89C2051(DIP); Value: *
footprint DIP20
pins: 1 RST/VPP, 2 P3.0(RXD), 3 P3.1(TXD), 4 XTAL2, 5 XTAL1, 6 P3.2(~{INT0)}, 7 P3.3(~{INT1)}, 8 P3.4(T0), 9 P3.5(T1), 10 GND, 11 P3.7, 12 P1.0(AIN0), 13 P1.1(AIN1), 14 P1.2, 15 P1.3, 16 P1.4, 17 P1.5, 18 P1.6, 19 P1.7, 20 VCC

## AT90S2313
designator DD?
AT90S2313; Value: *
footprint DIP20
pins: 1 ~{res}, 2 pd0, 3 pd1, 4 xtal2, 5 xtal1, 6 pd2, 7 pd3, 8 pd4, 9 pd5, 10 gnd, 11 pd6, 12 pb0, 13 pb1, 14 pb2, 15 pb3, 16 pb4, 17 pb5, 18 pb6, 19 pb7, 20 vcc

## AT90S4433
designator DD?
AT90S4433; Value: *
footprint DIP28S
pins: 1 ~{reset}, 2 pd0(rxd), 3 pd1(txd), 4 pd2(int0), 5 pd3(int1), 6 pd4(t0), 7 vcc, 8 gnd, 9 xtal1, 10 xtal2, 11 pd5(t1), 12 pd6(ain0), 13 pd7(ain1), 14 (icp)pb0, 15 (oc1)pb1, 16 (ss)pb2, 17 (mosi)pb3, 18 (miso)pb4, 19 (sck)pb5, 20 avcc, 21 aref, 22 agnd, 23 pc0, 24 pc1, 25 pc2, 26 pc3, 27 pc4, 28 pc5

## AT90S4433(TQFP32)
designator DD?
AT90S4433(TQFP32); Value: *
footprint TQFP32
pins: 1 pd3(int1), 2 pd4(t0), 3 hidden, 4 vcc, 5 gnd, 6 hidden, 7 xtal1, 8 xtal2, 9 pd5(t1), 10 pd6(ain0), 11 pd7(ain1), 12 (icp)pb0, 13 (oc1)pb1, 14 (ss)pb2, 15 (mosi)pb3, 16 (miso)pb4, 17 (sck)pb5, 18 avcc, 19 hidden, 20 aref, 21 agnd, 22 hidden, 23 pc0, 24 pc1, 25 pc2, 26 pc3, 27 pc4, 28 pc5, 29 ~{reset}, 30 pd0(rxd), 31 pd1(txd), 32 pd2(int0)

## AT90S8515
designator DD?
AT90S8515; Value: *
footprint DIP40
pins: 1 PB0(t0), 2 PB1(t1), 3 PB2(ain0), 4 PB3(ain1), 5 PB4(~{ss)}, 6 PB5(mosi), 7 PB6(miso), 8 PB7(sck), 9 ~{RES}, 10 PD0(rxd), 11 PD1(txd), 12 PD2(int0), 13 PD3(int1), 14 PD4, 15 PD5(oc1a), 16 PD6(~{wr)}, 17 PD7(~{rd)}, 18 XT2, 19 XT1, 20 GND, 21 (a8)PC0, 22 (a9)PC1, 23 (a10)PC2, 24 (a11)PC3, 25 (a12)PC4, 26 (a13)PC5, 27 (a14)PC6, 28 (a16)PC7, 29 OC1B, 30 ALE, 31 ISP, 32 (ad7)PA7, 33 (ad6)PA6, 34 (ad5)PA5, 35 (ad4)PA4, 36 (ad3)PA3, 37 (ad2)PA2, 38 (ad1)PA1, 39 (ad0)PA0, 40 VCC

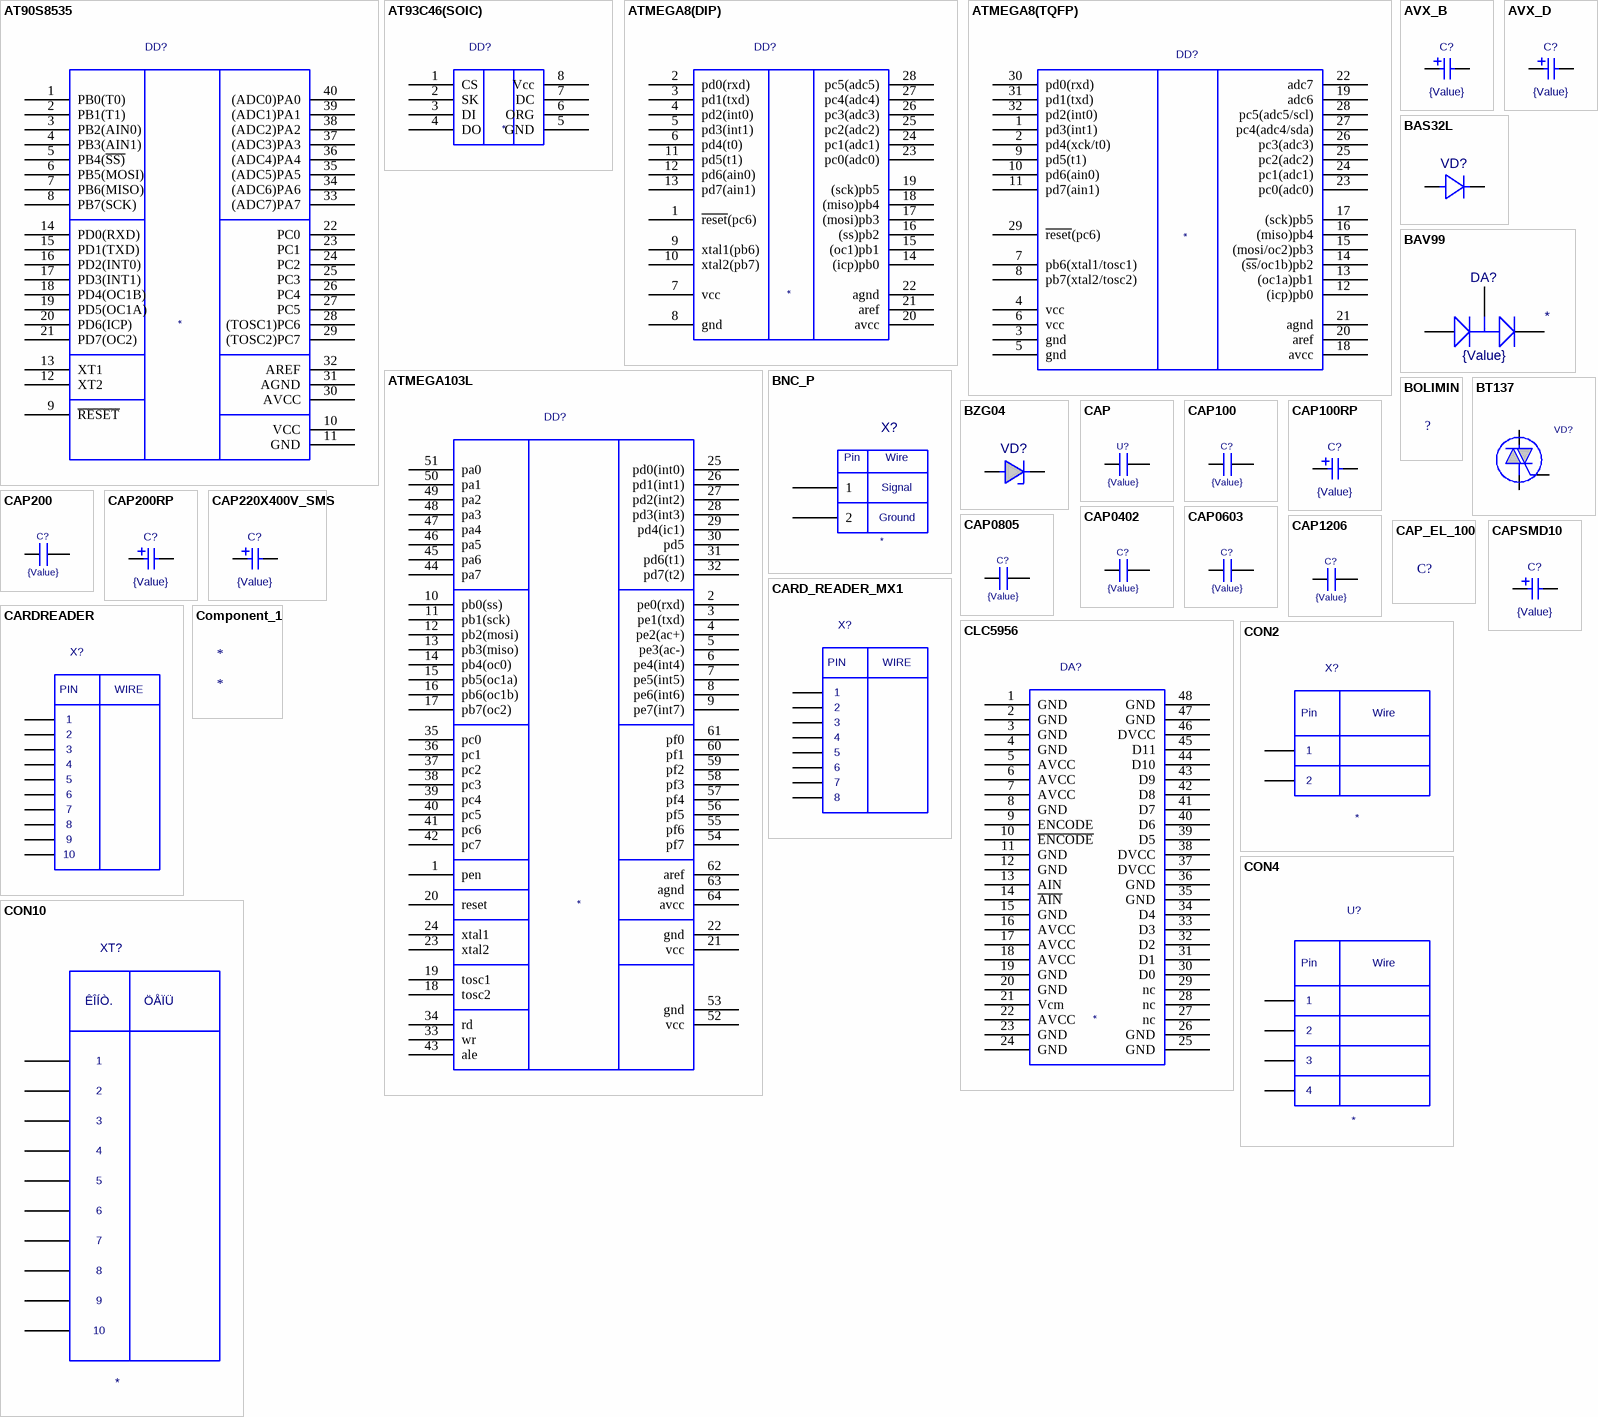
[diagram p5: symbols AT90S8535 to CON10]

## AT90S8535
designator DD?
AT90S8535; Value: *
footprint DIP40
pins: 1 PB0(T0), 2 PB1(T1), 3 PB2(AIN0), 4 PB3(AIN1), 5 PB4(~{SS)}, 6 PB5(MOSI), 7 PB6(MISO), 8 PB7(SCK), 9 ~{RESET}, 10 VCC, 11 GND, 12 XT2, 13 XT1, 14 PD0(RXD), 15 PD1(TXD), 16 PD2(INT0), 17 PD3(INT1), 18 PD4(OC1B), 19 PD5(OC1A), 20 PD6(ICP), 21 PD7(OC2), 22 PC0, 23 PC1, 24 PC2, 25 PC3, 26 PC4, 27 PC5, 28 (TOSC1)PC6, 29 (TOSC2)PC7, 30 AVCC, 31 AGND, 32 AREF, 33 (ADC7)PA7, 34 (ADC6)PA6, 35 (ADC5)PA5, 36 (ADC4)PA4, 37 (ADC3)PA3, 38 (ADC2)PA2, 39 (ADC1)PA1, 40 (ADC0)PA0

## AT93C46(SOIC)
designator DD?
AT93C46(SOIC); Value: *
footprint SO8
pins: 1 CS, 2 SK, 3 DI, 4 DO, 5 GND, 6 ORG, 7 DC, 8 Vcc

## ATMEGA8(DIP)
designator DD?
ATMEGA8(DIP); Value: *
footprint DIP28S
pins: 1 ~{reset}(pc6), 2 pd0(rxd), 3 pd1(txd), 4 pd2(int0), 5 pd3(int1), 6 pd4(t0), 7 vcc, 8 gnd, 9 xtal1(pb6), 10 xtal2(pb7), 11 pd5(t1), 12 pd6(ain0), 13 pd7(ain1), 14 (icp)pb0, 15 (oc1)pb1, 16 (ss)pb2, 17 (mosi)pb3, 18 (miso)pb4, 19 (sck)pb5, 20 avcc, 21 aref, 22 agnd, 23 pc0(adc0), 24 pc1(adc1), 25 pc2(adc2), 26 pc3(adc3), 27 pc4(adc4), 28 pc5(adc5)

## ATMEGA8(TQFP)
designator DD?
ATMEGA8(TQFP); Value: *
footprint TQFP32
pins: 1 pd3(int1), 2 pd4(xck/t0), 3 gnd, 4 vcc, 5 gnd, 6 vcc, 7 pb6(xtal1/tosc1), 8 pb7(xtal2/tosc2), 9 pd5(t1), 10 pd6(ain0), 11 pd7(ain1), 12 (icp)pb0, 13 (oc1a)pb1, 14 (~{ss}/oc1b)pb2, 15 (mosi/oc2)pb3, 16 (miso)pb4, 17 (sck)pb5, 18 avcc, 19 adc6, 20 aref, 21 agnd, 22 adc7, 23 pc0(adc0), 24 pc1(adc1), 25 pc2(adc2), 26 pc3(adc3), 27 pc4(adc4/sda), 28 pc5(adc5/scl), 29 ~{reset}(pc6), 30 pd0(rxd), 31 pd1(txd), 32 pd2(int0)

## ATMEGA103L
designator DD?
ATMEGA103L; Value: *
footprint ATMEGA103L
pins: 1 pen, 2 pe0(rxd), 3 pe1(txd), 4 pe2(ac+), 5 pe3(ac-), 6 pe4(int4), 7 pe5(int5), 8 pe6(int6), 9 pe7(int7), 10 pb0(ss), 11 pb1(sck), 12 pb2(mosi), 13 pb3(miso), 14 pb4(oc0), 15 pb5(oc1a), 16 pb6(oc1b), 17 pb7(oc2), 18 tosc2, 19 tosc1, 20 reset, 21 vcc, 22 gnd, 23 xtal2, 24 xtal1, 25 pd0(int0), 26 pd1(int1), 27 pd2(int2), 28 pd3(int3), 29 pd4(ic1), 30 pd5, 31 pd6(t1), 32 pd7(t2), 33 wr, 34 rd, 35 pc0, 36 pc1, 37 pc2, 38 pc3, 39 pc4, 40 pc5, 41 pc6, 42 pc7, 43 ale, 44 pa7, 45 pa6, 46 pa5, 47 pa4, 48 pa3, 49 pa2, 50 pa1, 51 pa0, 52 vcc, 53 gnd, 54 pf7, 55 pf6, 56 pf5, 57 pf4, 58 pf3, 59 pf2, 60 pf1, 61 pf0, 62 aref, 63 agnd, 64 avcc

## AVX_B
designator C?  value {Value}  (hidden comment: *)
AVX_B
footprint AVX_B
pins: 1, 2

## AVX_D
designator C?  value {Value}  (hidden comment: *)
AVX_D
footprint AVX_D
pins: 1, 2

## BAS32L
designator VD?  (value not drawn)
BAS32L; Value: {Value}
footprint BAS32L
pins: 1, 2

## BAV99
designator DA?  value {Value}
SOT23 Silicon Planar High-Speed Switching Series Diode Pair; OriginalName: BAV99
simulation model BAV99
footprint SO-G3/X.9
pins: 1 C, 2 K, 3 A

## BNC_P
designator X?
BNC_P; Value: *
footprint BNC_P
pins: 1, 2, 3 hidden, 4 hidden
text: Pin; Wire; Signal; Ground

## BOLIMIN
designator ?  (value not drawn)
BOLIMIN; Value: *
footprint BOLIMIN

## BT137
designator VD?  (value not drawn)
BT137; Value: {Value}
footprint TO-220_BT137(Primary)
pins: 1, 2, 3

## BZG04
designator VD?  (value not drawn)
BZG04; Value: *
footprint BZG04
pins: 1 a, 2 k

## CAP
designator U?  value {Value}  (hidden comment: *)
CAP
pins: 1, 2

## CAP100
designator C?  value {Value}  (hidden comment: *)
CAP100
footprint CAP100
pins: 1, 2

## CAP100RP
designator C?  value {Value}  (hidden comment: *)
Radial Polarized Capacitor
footprint CAP100RP_CAP100RP(Primary)
pins: MINUS, PLUS

## CAP200
designator C?  value {Value}  (hidden comment: *)
Radial Polarized Capacitor
footprint CAP200
pins: 1, 2

## CAP200RP
designator C?  value {Value}  (hidden comment: *)
Radial Polarized Capacitor
footprint CAP200RP_CAP200RP(Primary)
pins: MINUS, PLUS

## CAP220X400V_SMS
designator C?  value {Value}  (hidden comment: *)
CAP220X400V_SMS
footprint CAP220X400V_SMS
pins: 1, 2

## CAP0402
designator C?  value {Value}  (hidden comment: *)
CAP0402
footprint CC0402
pins: 1, 2

## CAP0603
designator C?  value {Value}  (hidden comment: *)
CAP0603
footprint CC0603
pins: 1, 2

## CAP0805
designator C?  value {Value}  (hidden comment: *)
CAP0805
footprint CC0805
pins: 1, 2

## CAP1206
designator C?  value {Value}  (hidden comment: *)
CAP1206
footprint RC1206
pins: 1, 2

## CAP_EL_100
designator C?  (value not drawn)
CAP_EL_100; Value: *
footprint CAP100RP

## CAPSMD10
designator C?  value {Value}  (hidden comment: *)
CAPSMD10
footprint CAPSMD10
pins: 1 +, 2

## CARD_READER_MX1
designator X?  (value not drawn)
CARD_READER_MX1; Value: *
footprint CARD_READER_MX1
pins: 1, 2, 3, 4, 5, 6, 7, 8
text: PIN; WIRE

## CARDREADER
designator X?  (value not drawn)
CARDREADER; Value: *
footprint CARDREADER
pins: 1, 2, 3, 4, 5, 6, 7, 8, 9, 10
text: PIN; WIRE

## CLC5956
designator DA?
CLC5956; Value: *
footprint TSSOP48_05_CLC5956(Primary)
pins: 1 GND, 2 GND, 3 GND, 4 GND, 5 AVCC, 6 AVCC, 7 AVCC, 8 GND, 9 ENCODE, 10 ~{ENCODE}, 11 GND, 12 GND, 13 AIN, 14 ~{AIN}, 15 GND, 16 AVCC, 17 AVCC, 18 AVCC, 19 GND, 20 GND, 21 Vcm, 22 AVCC, 23 GND, 24 GND, 25 GND, 26 GND, 27 nc, 28 nc, 29 nc, 30 D0, 31 D1, 32 D2, 33 D3, 34 D4, 35 GND, 36 GND, 37 DVCC, 38 DVCC, 39 D5, 40 D6, 41 D7, 42 D8, 43 D9, 44 D10, 45 D11, 46 DVCC, 47 GND, 48 GND

## Component_1
designator *

## CON2
designator X?
CON2; Value: *
footprint CON2
pins: 1, 2
text: Pin; Wire

## CON4
designator U?
CON4; Value: *
pins: 1, 2, 3, 4
text: Pin; Wire

## CON10
designator XT?
CON10; Value: *
footprint CON10
pins: 1 0, 2 0, 3 1, 4 2, 5 3, 6 4, 7 5, 8 6, 9 7, 10 8
text: ÊÎÍÒ.; ÖÅÏÜ

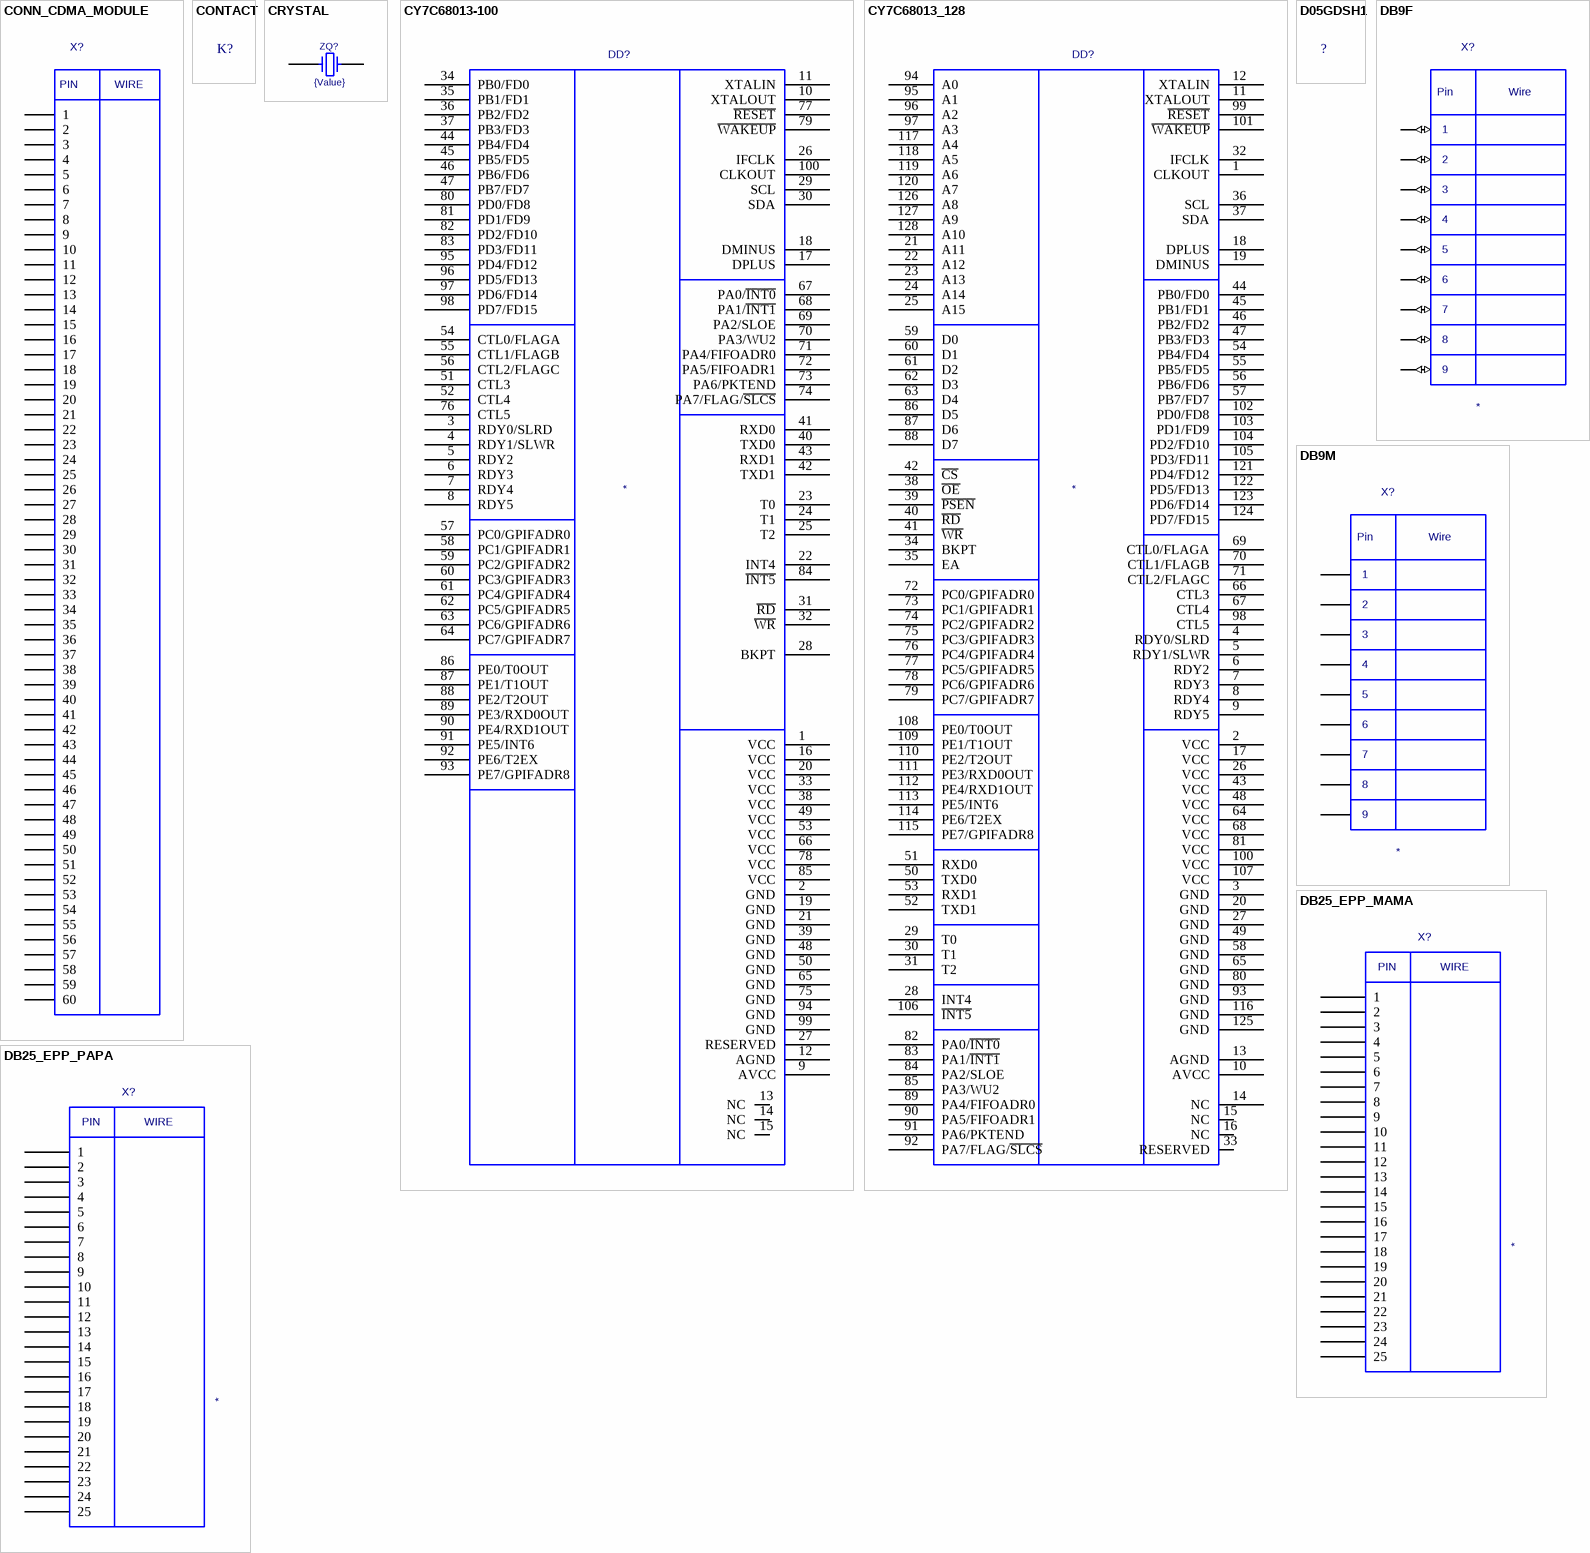
[diagram p6: symbols CONN_CDMA_MODULE to DB25_EPP_PAPA]

## CONN_CDMA_MODULE
designator X?  (value not drawn)
CONN_CDMA_MODULE; Value: *
footprint CONNECT_5087_60
pins: 1, 2, 3, 4, 5, 6, 7, 8, 9, 10, 11, 12, 13, 14, 15, 16, 17, 18, 19, 20, 21, 22, 23, 24, 25, 26, 27, 28, 29, 30, 31, 32, 33, 34, 35, 36, 37, 38, 39, 40, 41, 42, 43, 44, 45, 46, 47, 48, 49, 50, 51, 52, 53, 54, 55, 56, 57, 58, 59, 60
text: PIN; WIRE

## CONTACT
designator K?  (value not drawn)
CONTACT; Value: *
footprint CONTACT

## CRYSTAL
designator ZQ?  value {Value}  (hidden comment: *)
CRYSTAL
footprint CRYSTAL_Primary
footprint CRYSTAL_down
pins: 1, 2

## CY7C68013-100
designator DD?
CY7C68013-100; Value: *
footprint CY7C68013-100
pins: 1 VCC, 2 GND, 3 RDY0/SLRD, 4 RDY1/SLWR, 5 RDY2, 6 RDY3, 7 RDY4, 8 RDY5, 9 AVCC, 10 XTALOUT, 11 XTALIN, 12 AGND, 13 NC, 14 NC, 15 NC, 16 VCC, 17 DPLUS, 18 DMINUS, 19 GND, 20 VCC, 21 GND, 22 INT4, 23 T0, 24 T1, 25 T2, 26 IFCLK, 27 RESERVED, 28 BKPT, 29 SCL, 30 SDA, 31 ~{RD}, 32 ~{WR}, 33 VCC, 34 PB0/FD0, 35 PB1/FD1, 36 PB2/FD2, 37 PB3/FD3, 38 VCC, 39 GND, 40 TXD0, 41 RXD0, 42 TXD1, 43 RXD1, 44 PB4/FD4, 45 PB5/FD5, 46 PB6/FD6, 47 PB7/FD7, 48 GND, 49 VCC, 50 GND, 51 CTL3, 52 CTL4, 53 VCC, 54 CTL0/FLAGA, 55 CTL1/FLAGB, 56 CTL2/FLAGC, 57 PC0/GPIFADR0, 58 PC1/GPIFADR1, 59 PC2/GPIFADR2, 60 PC3/GPIFADR3, 61 PC4/GPIFADR4, 62 PC5/GPIFADR5, 63 PC6/GPIFADR6, 64 PC7/GPIFADR7, 65 GND, 66 VCC, 67 PA0/~{INT0}, 68 PA1/~{INT1}, 69 PA2/SLOE, 70 PA3/WU2, 71 PA4/FIFOADR0, 72 PA5/FIFOADR1, 73 PA6/PKTEND, 74 PA7/FLAG/~{SLCS}, 75 GND, 76 CTL5, 77 ~{RESET}, 78 VCC, 79 ~{WAKEUP}, 80 PD0/FD8, 81 PD1/FD9, 82 PD2/FD10, 83 PD3/FD11, 84 ~{INT5}, 85 VCC, 86 PE0/T0OUT, 87 PE1/T1OUT, 88 PE2/T2OUT, 89 PE3/RXD0OUT, 90 PE4/RXD1OUT, 91 PE5/INT6, 92 PE6/T2EX, 93 PE7/GPIFADR8, 94 GND, 95 PD4/FD12, 96 PD5/FD13, 97 PD6/FD14, 98 PD7/FD15, 99 GND, 100 CLKOUT

## CY7C68013_128
designator DD?
CY7C68013_128; Value: *
footprint TQFP128
pins: 1 CLKOUT, 2 VCC, 3 GND, 4 RDY0/SLRD, 5 RDY1/SLWR, 6 RDY2, 7 RDY3, 8 RDY4, 9 RDY5, 10 AVCC, 11 XTALOUT, 12 XTALIN, 13 AGND, 14 NC, 15 NC, 16 NC, 17 VCC, 18 DPLUS, 19 DMINUS, 20 GND, 21 A11, 22 A12, 23 A13, 24 A14, 25 A15, 26 VCC, 27 GND, 28 INT4, 29 T0, 30 T1, 31 T2, 32 IFCLK, 33 RESERVED, 34 BKPT, 35 EA, 36 SCL, 37 SDA, 38 ~{OE}, 39 ~{PSEN}, 40 ~{RD}, 41 ~{WR}, 42 ~{CS}, 43 VCC, 44 PB0/FD0, 45 PB1/FD1, 46 PB2/FD2, 47 PB3/FD3, 48 VCC, 49 GND, 50 TXD0, 51 RXD0, 52 TXD1, 53 RXD1, 54 PB4/FD4, 55 PB5/FD5, 56 PB6/FD6, 57 PB7/FD7, 58 GND, 59 D0, 60 D1, 61 D2, 62 D3, 63 D4, 64 VCC, 65 GND, 66 CTL3, 67 CTL4, 68 VCC, 69 CTL0/FLAGA, 70 CTL1/FLAGB, 71 CTL2/FLAGC, 72 PC0/GPIFADR0, 73 PC1/GPIFADR1, 74 PC2/GPIFADR2, 75 PC3/GPIFADR3, 76 PC4/GPIFADR4, 77 PC5/GPIFADR5, 78 PC6/GPIFADR6, 79 PC7/GPIFADR7, 80 GND, 81 VCC, 82 PA0/~{INT0}, 83 PA1/~{INT1}, 84 PA2/SLOE, 85 PA3/WU2, 86 D5, 87 D6, 88 D7, 89 PA4/FIFOADR0, 90 PA5/FIFOADR1, 91 PA6/PKTEND, 92 PA7/FLAG/~{SLCS}, 93 GND, 94 A0, 95 A1, 96 A2, 97 A3, 98 CTL5, 99 ~{RESET}, 100 VCC, 101 ~{WAKEUP}, 102 PD0/FD8, 103 PD1/FD9, 104 PD2/FD10, 105 PD3/FD11, 106 ~{INT5}, 107 VCC, 108 PE0/T0OUT, 109 PE1/T1OUT, 110 PE2/T2OUT, 111 PE3/RXD0OUT, 112 PE4/RXD1OUT, 113 PE5/INT6, 114 PE6/T2EX, 115 PE7/GPIFADR8, 116 GND, 117 A4, 118 A5, 119 A6, 120 A7, 121 PD4/FD12, 122 PD5/FD13, 123 PD6/FD14, 124 PD7/FD15, 125 GND, 126 A8, 127 A9, 128 A10

## D05GDSH1
designator ?  (value not drawn)
D05GDSH1; Value: *
footprint D05GDSH1

## DB9F
designator X?
Boardmount Pin Connector; Value: *
footprint DB9F
pins: 1 P1 (io), 2 P2 (io), 3 P3 (io), 4 P4 (io), 5 P5 (io), 6 P6 (io), 7 P7 (io), 8 P8 (io), 9 P9 (io), 10 hidden, 11 hidden
text: Pin; Wire

## DB9M
designator X?
DB9M; Value: *
footprint DB9M
pins: 1, 2 1, 3 1, 4 1, 5 1, 6 1, 7 1, 8 1, 9 1, 10 hidden, 11 hidden
text: Pin; Wire

## DB25_EPP_MAMA
designator X?
DB25_EPP_MAMA; Value: *
footprint DB25F
pins: 1, 2, 3, 4, 5, 6, 7, 8, 9, 10, 11, 12, 13, 14, 15, 16, 17, 18, 19, 20, 21, 22, 23, 24, 25, 26 hidden, 27 hidden
text: PIN; WIRE

## DB25_EPP_PAPA
designator X?
DB25_EPP_PAPA; Value: *
footprint DB25M
pins: 1, 2, 3, 4, 5, 6, 7, 8, 9, 10, 11, 12, 13, 14, 15, 16, 17, 18, 19, 20, 21, 22, 23, 24, 25, 26 hidden, 27 hidden
text: PIN; WIRE

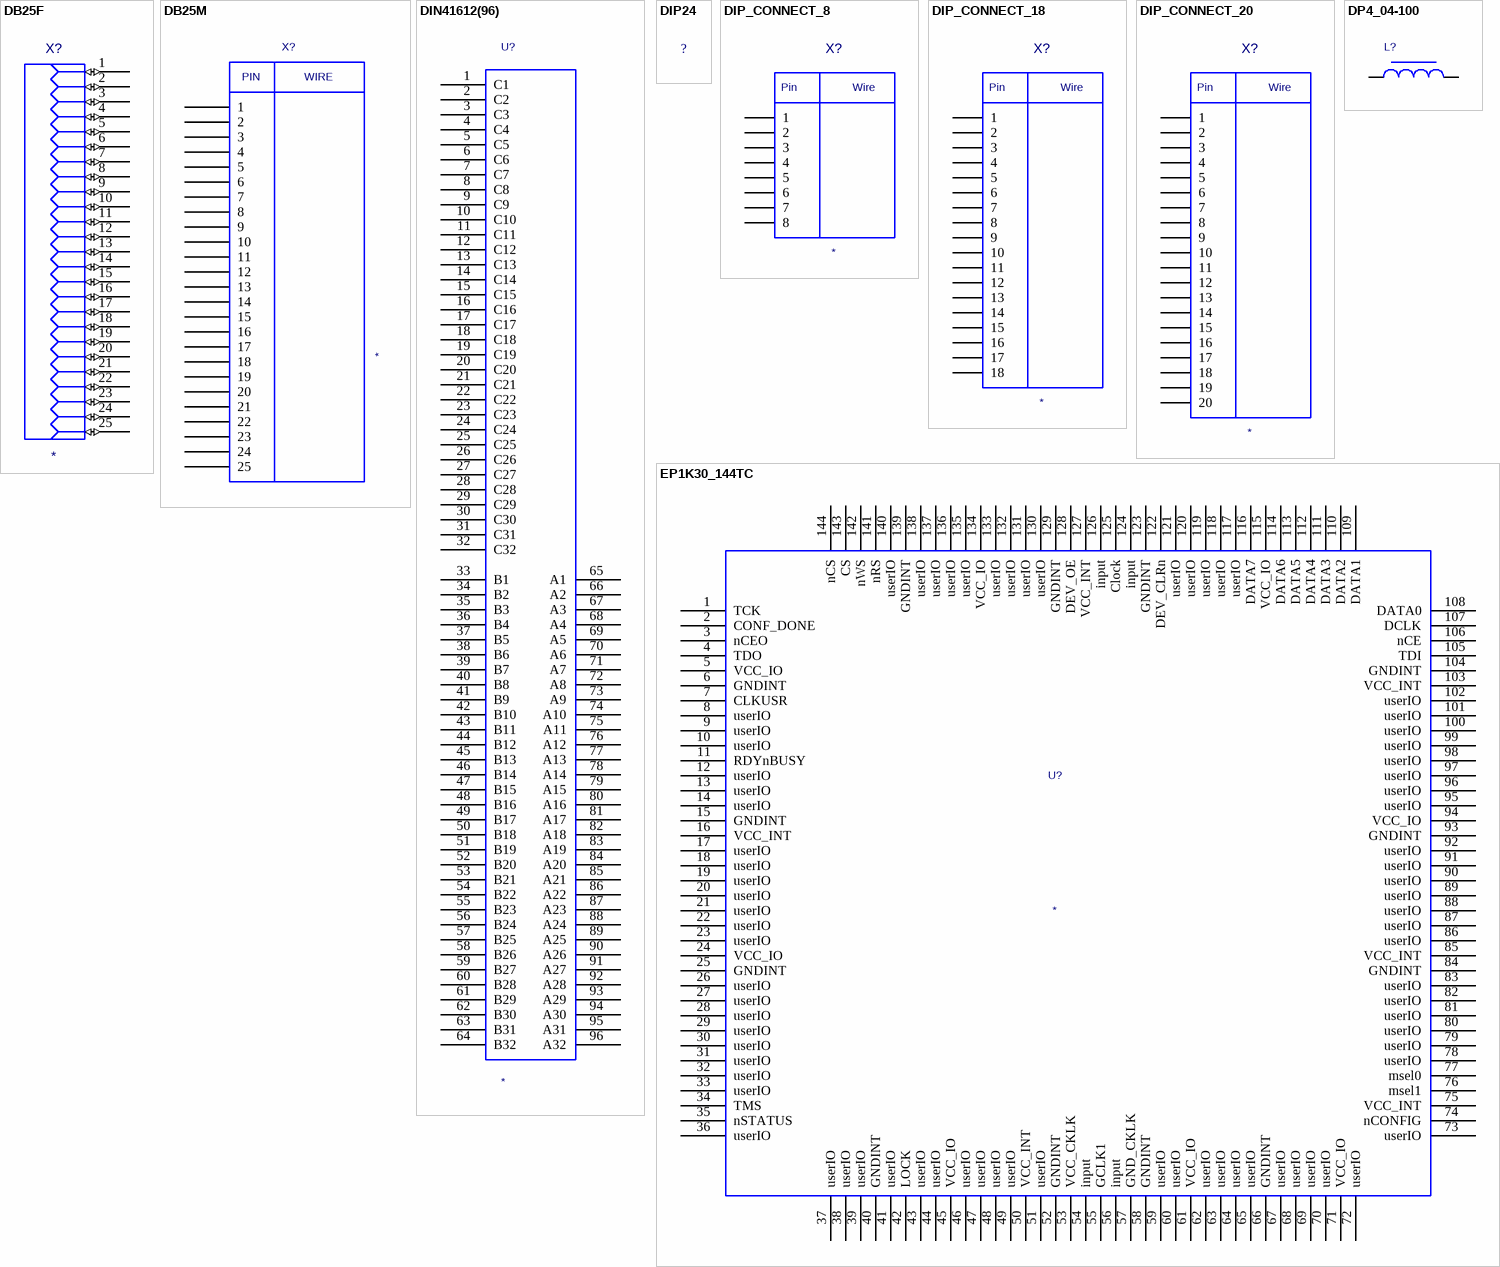
[diagram p7: symbols DB25F to EP1K30_144TC]

## DB25F
designator X?
Boardmount Pin Connector; Value: *
footprint DB25F
pins: 1 P1 (io), 2 P2 (io), 3 P3 (io), 4 P4 (io), 5 P5 (io), 6 P6 (io), 7 P7 (io), 8 P8 (io), 9 P9 (io), 10 P10 (io), 11 P11 (io), 12 P12 (io), 13 P13 (io), 14 P14 (io), 15 P15 (io), 16 P16 (io), 17 P17 (io), 18 P18 (io), 19 P19 (io), 20 P20 (io), 21 P21 (io), 22 P22 (io), 23 P23 (io), 24 P24 (io), 25 P25 (io)

## DB25M
designator X?
DB25M; Value: *
footprint DB25F
pins: 1, 2, 3, 4, 5, 6, 7, 8, 9, 10, 11, 12, 13, 14, 15, 16, 17, 18, 19, 20, 21, 22, 23, 24, 25, 26 hidden, 27 hidden
text: PIN; WIRE

## DIN41612(96)
designator U?
DIN41612(96); Value: *
pins: 1 C1, 2 C2, 3 C3, 4 C4, 5 C5, 6 C6, 7 C7, 8 C8, 9 C9, 10 C10, 11 C11, 12 C12, 13 C13, 14 C14, 15 C15, 16 C16, 17 C17, 18 C18, 19 C19, 20 C20, 21 C21, 22 C22, 23 C23, 24 C24, 25 C25, 26 C26, 27 C27, 28 C28, 29 C29, 30 C30, 31 C31, 32 C32, 33 B1, 34 B2, 35 B3, 36 B4, 37 B5, 38 B6, 39 B7, 40 B8, 41 B9, 42 B10, 43 B11, 44 B12, 45 B13, 46 B14, 47 B15, 48 B16, 49 B17, 50 B18, 51 B19, 52 B20, 53 B21, 54 B22, 55 B23, 56 B24, 57 B25, 58 B26, 59 B27, 60 B28, 61 B29, 62 B30, 63 B31, 64 B32, 65 A1, 66 A2, 67 A3, 68 A4, 69 A5, 70 A6, 71 A7, 72 A8, 73 A9, 74 A10, 75 A11, 76 A12, 77 A13, 78 A14, 79 A15, 80 A16, 81 A17, 82 A18, 83 A19, 84 A20, 85 A21, 86 A22, 87 A23, 88 A24, 89 A25, 90 A26, 91 A27, 92 A28, 93 A29, 94 A30, 95 A31, 96 A32

## DIP24
designator ?  (value not drawn)
DIP24; Value: *
footprint DIP24
pins: 1 hidden, 2 hidden, 3 hidden, 4 hidden, 5 hidden, 6 hidden, 7 hidden, 8 hidden, 9 hidden, 10 hidden, 11 hidden, 12 hidden, 13 hidden, 14 hidden, 15 hidden, 16 hidden, 17 hidden, 18 hidden, 19 hidden, 20 hidden, 21 hidden, 22 hidden, 23 hidden, 24 hidden

## DIP_CONNECT_8
designator X?
DIP_CONNECT_8; Value: *
footprint DIP8
pins: 1, 2, 3, 4, 5, 6, 7, 8
text: Pin; Wire

## DIP_CONNECT_18
designator X?
DIP_CONNECT_18; Value: *
footprint DIP18
pins: 1, 2, 3, 4, 5, 6, 7, 8, 9, 10, 11, 12, 13, 14, 15, 16, 17, 18
text: Pin; Wire

## DIP_CONNECT_20
designator X?
DIP_CONNECT_20; Value: *
footprint DIP20
pins: 1, 2, 3, 4, 5, 6, 7, 8, 9, 10, 11, 12, 13, 14, 15, 16, 17, 18, 19, 20
text: Pin; Wire

## DP4_04-100
designator L?  (value not drawn)
DP4_04-100; Value: *
footprint RES1200
pins: 1, 2

## EP1K30_144TC
designator U?
EP1K30_144TC; Value: *
pins: 1 TCK, 2 CONF_DONE, 3 nCEO, 4 TDO, 5 VCC_IO, 6 GNDINT, 7 CLKUSR, 8 userIO, 9 userIO, 10 userIO, 11 RDYnBUSY, 12 userIO, 13 userIO, 14 userIO, 15 GNDINT, 16 VCC_INT, 17 userIO, 18 userIO, 19 userIO, 20 userIO, 21 userIO, 22 userIO, 23 userIO, 24 VCC_IO, 25 GNDINT, 26 userIO, 27 userIO, 28 userIO, 29 userIO, 30 userIO, 31 userIO, 32 userIO, 33 userIO, 34 TMS, 35 nSTATUS, 36 userIO, 37 userIO, 38 userIO, 39 userIO, 40 GNDINT, 41 userIO, 42 LOCK, 43 userIO, 44 userIO, 45 VCC_IO, 46 userIO, 47 userIO, 48 userIO, 49 userIO, 50 VCC_INT, 51 userIO, 52 GNDINT, 53 VCC_CKLK, 54 input, 55 GCLK1, 56 input, 57 GND_CKLK, 58 GNDINT, 59 userIO, 60 userIO, 61 VCC_IO, 62 userIO, 63 userIO, 64 userIO, 65 userIO, 66 GNDINT, 67 userIO, 68 userIO, 69 userIO, 70 userIO, 71 VCC_IO, 72 userIO, 73 userIO, 74 nCONFIG, 75 VCC_INT, 76 msel1, 77 msel0, 78 userIO, 79 userIO, 80 userIO, 81 userIO, 82 userIO, 83 userIO, 84 GNDINT, 85 VCC_INT, 86 userIO, 87 userIO, 88 userIO, 89 userIO, 90 userIO, 91 userIO, 92 userIO, 93 GNDINT, 94 VCC_IO, 95 userIO, 96 userIO, 97 userIO, 98 userIO, 99 userIO, 100 userIO, 101 userIO, 102 userIO, 103 VCC_INT, 104 GNDINT, 105 TDI, 106 nCE, 107 DCLK, 108 DATA0, 109 DATA1, 110 DATA2, 111 DATA3, 112 DATA4, 113 DATA5, 114 DATA6, 115 VCC_IO, 116 DATA7, 117 userIO, 118 userIO, 119 userIO, 120 userIO, 121 userIO, 122 DEV_CLRn, 123 GNDINT, 124 input, 125 Clock, 126 input, 127 VCC_INT, 128 DEV_OE, 129 GNDINT, 130 userIO, 131 userIO, 132 userIO, 133 userIO, 134 VCC_IO, 135 userIO, 136 userIO, 137 userIO, 138 userIO, 139 GNDINT, 140 userIO, 141 nRS, 142 nWS, 143 CS, 144 nCS

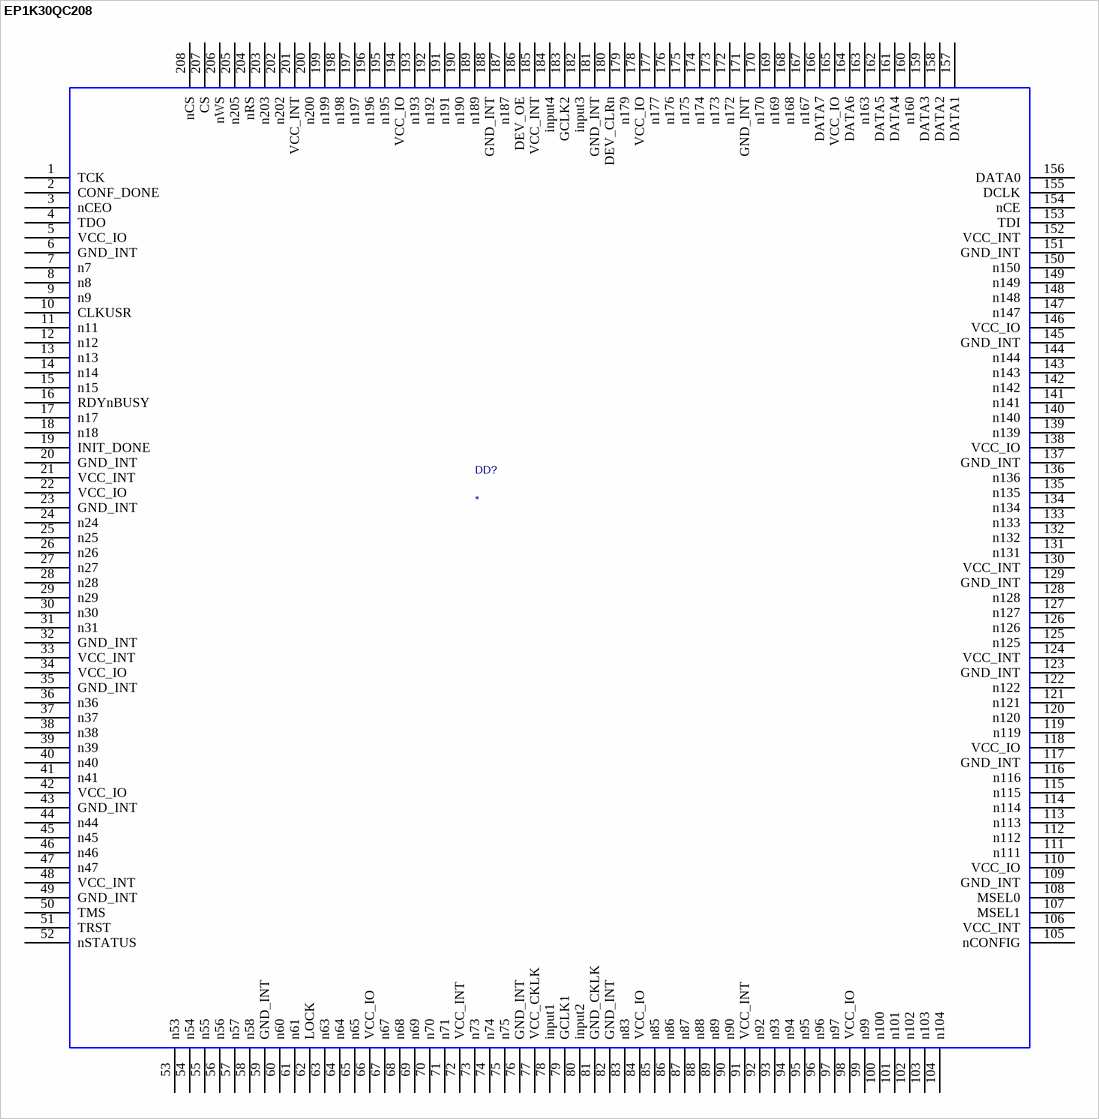
[diagram p8: symbol EP1K30QC208]

## EP1K30QC208
designator DD?
EP1K30QC208; Value: *
footprint PQFP208
pins: 1 TCK, 2 CONF_DONE, 3 nCEO, 4 TDO, 5 VCC_IO, 6 GND_INT, 7 n7, 8 n8, 9 n9, 10 CLKUSR, 11 n11, 12 n12, 13 n13, 14 n14, 15 n15, 16 RDYnBUSY, 17 n17, 18 n18, 19 INIT_DONE, 20 GND_INT, 21 VCC_INT, 22 VCC_IO, 23 GND_INT, 24 n24, 25 n25, 26 n26, 27 n27, 28 n28, 29 n29, 30 n30, 31 n31, 32 GND_INT, 33 VCC_INT, 34 VCC_IO, 35 GND_INT, 36 n36, 37 n37, 38 n38, 39 n39, 40 n40, 41 n41, 42 VCC_IO, 43 GND_INT, 44 n44, 45 n45, 46 n46, 47 n47, 48 VCC_INT, 49 GND_INT, 50 TMS, 51 TRST, 52 nSTATUS, 53 n53, 54 n54, 55 n55, 56 n56, 57 n57, 58 n58, 59 GND_INT, 60 n60, 61 n61, 62 LOCK, 63 n63, 64 n64, 65 n65, 66 VCC_IO, 67 n67, 68 n68, 69 n69, 70 n70, 71 n71, 72 VCC_INT, 73 n73, 74 n74, 75 n75, 76 GND_INT, 77 VCC_CKLK, 78 input1, 79 GCLK1, 80 input2, 81 GND_CKLK, 82 GND_INT, 83 n83, 84 VCC_IO, 85 n85, 86 n86, 87 n87, 88 n88, 89 n89, 90 n90, 91 VCC_INT, 92 n92, 93 n93, 94 n94, 95 n95, 96 n96, 97 n97, 98 VCC_IO, 99 n99, 100 n100, 101 n101, 102 n102, 103 n103, 104 n104, 105 nCONFIG, 106 VCC_INT, 107 MSEL1, 108 MSEL0, 109 GND_INT, 110 VCC_IO, 111 n111, 112 n112, 113 n113, 114 n114, 115 n115, 116 n116, 117 GND_INT, 118 VCC_IO, 119 n119, 120 n120, 121 n121, 122 n122, 123 GND_INT, 124 VCC_INT, 125 n125, 126 n126, 127 n127, 128 n128, 129 GND_INT, 130 VCC_INT, 131 n131, 132 n132, 133 n133, 134 n134, 135 n135, 136 n136, 137 GND_INT, 138 VCC_IO, 139 n139, 140 n140, 141 n141, 142 n142, 143 n143, 144 n144, 145 GND_INT, 146 VCC_IO, 147 n147, 148 n148, 149 n149, 150 n150, 151 GND_INT, 152 VCC_INT, 153 TDI, 154 nCE, 155 DCLK, 156 DATA0, 157 DATA1, 158 DATA2, 159 DATA3, 160 n160, 161 DATA4, 162 DATA5, 163 n163, 164 DATA6, 165 VCC_IO, 166 DATA7, 167 n167, 168 n168, 169 n169, 170 n170, 171 GND_INT, 172 n172, 173 n173, 174 n174, 175 n175, 176 n176, 177 n177, 178 VCC_IO, 179 n179, 180 DEV_CLRn, 181 GND_INT, 182 input3, 183 GCLK2, 184 input4, 185 VCC_INT, 186 DEV_OE, 187 n187, 188 GND_INT, 189 n189, 190 n190, 191 n191, 192 n192, 193 n193, 194 VCC_IO, 195 n195, 196 n196, 197 n197, 198 n198, 199 n199, 200 n200, 201 VCC_INT, 202 n202, 203 n203, 204 nRS, 205 n205, 206 nWS, 207 CS, 208 nCS

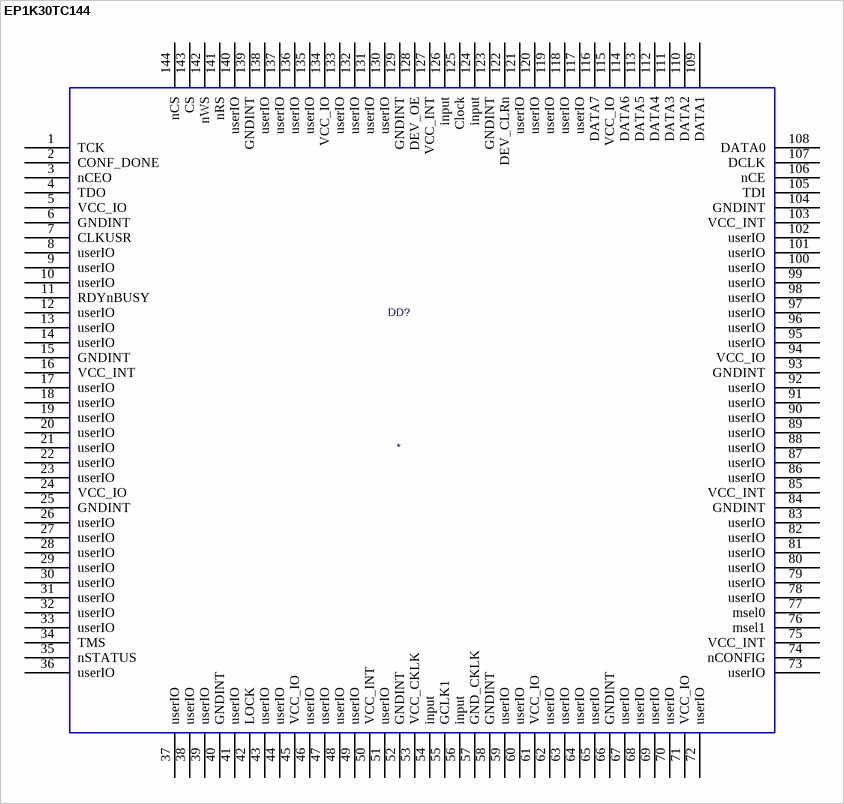
[diagram p9: symbol EP1K30TC144]

## EP1K30TC144
designator DD?
EP1K30TC144; Value: *
footprint TQFP144
pins: 1 TCK, 2 CONF_DONE, 3 nCEO, 4 TDO, 5 VCC_IO, 6 GNDINT, 7 CLKUSR, 8 userIO, 9 userIO, 10 userIO, 11 RDYnBUSY, 12 userIO, 13 userIO, 14 userIO, 15 GNDINT, 16 VCC_INT, 17 userIO, 18 userIO, 19 userIO, 20 userIO, 21 userIO, 22 userIO, 23 userIO, 24 VCC_IO, 25 GNDINT, 26 userIO, 27 userIO, 28 userIO, 29 userIO, 30 userIO, 31 userIO, 32 userIO, 33 userIO, 34 TMS, 35 nSTATUS, 36 userIO, 37 userIO, 38 userIO, 39 userIO, 40 GNDINT, 41 userIO, 42 LOCK, 43 userIO, 44 userIO, 45 VCC_IO, 46 userIO, 47 userIO, 48 userIO, 49 userIO, 50 VCC_INT, 51 userIO, 52 GNDINT, 53 VCC_CKLK, 54 input, 55 GCLK1, 56 input, 57 GND_CKLK, 58 GNDINT, 59 userIO, 60 userIO, 61 VCC_IO, 62 userIO, 63 userIO, 64 userIO, 65 userIO, 66 GNDINT, 67 userIO, 68 userIO, 69 userIO, 70 userIO, 71 VCC_IO, 72 userIO, 73 userIO, 74 nCONFIG, 75 VCC_INT, 76 msel1, 77 msel0, 78 userIO, 79 userIO, 80 userIO, 81 userIO, 82 userIO, 83 userIO, 84 GNDINT, 85 VCC_INT, 86 userIO, 87 userIO, 88 userIO, 89 userIO, 90 userIO, 91 userIO, 92 userIO, 93 GNDINT, 94 VCC_IO, 95 userIO, 96 userIO, 97 userIO, 98 userIO, 99 userIO, 100 userIO, 101 userIO, 102 userIO, 103 VCC_INT, 104 GNDINT, 105 TDI, 106 nCE, 107 DCLK, 108 DATA0, 109 DATA1, 110 DATA2, 111 DATA3, 112 DATA4, 113 DATA5, 114 DATA6, 115 VCC_IO, 116 DATA7, 117 userIO, 118 userIO, 119 userIO, 120 userIO, 121 userIO, 122 DEV_CLRn, 123 GNDINT, 124 input, 125 Clock, 126 input, 127 VCC_INT, 128 DEV_OE, 129 GNDINT, 130 userIO, 131 userIO, 132 userIO, 133 userIO, 134 VCC_IO, 135 userIO, 136 userIO, 137 userIO, 138 userIO, 139 GNDINT, 140 userIO, 141 nRS, 142 nWS, 143 CS, 144 nCS

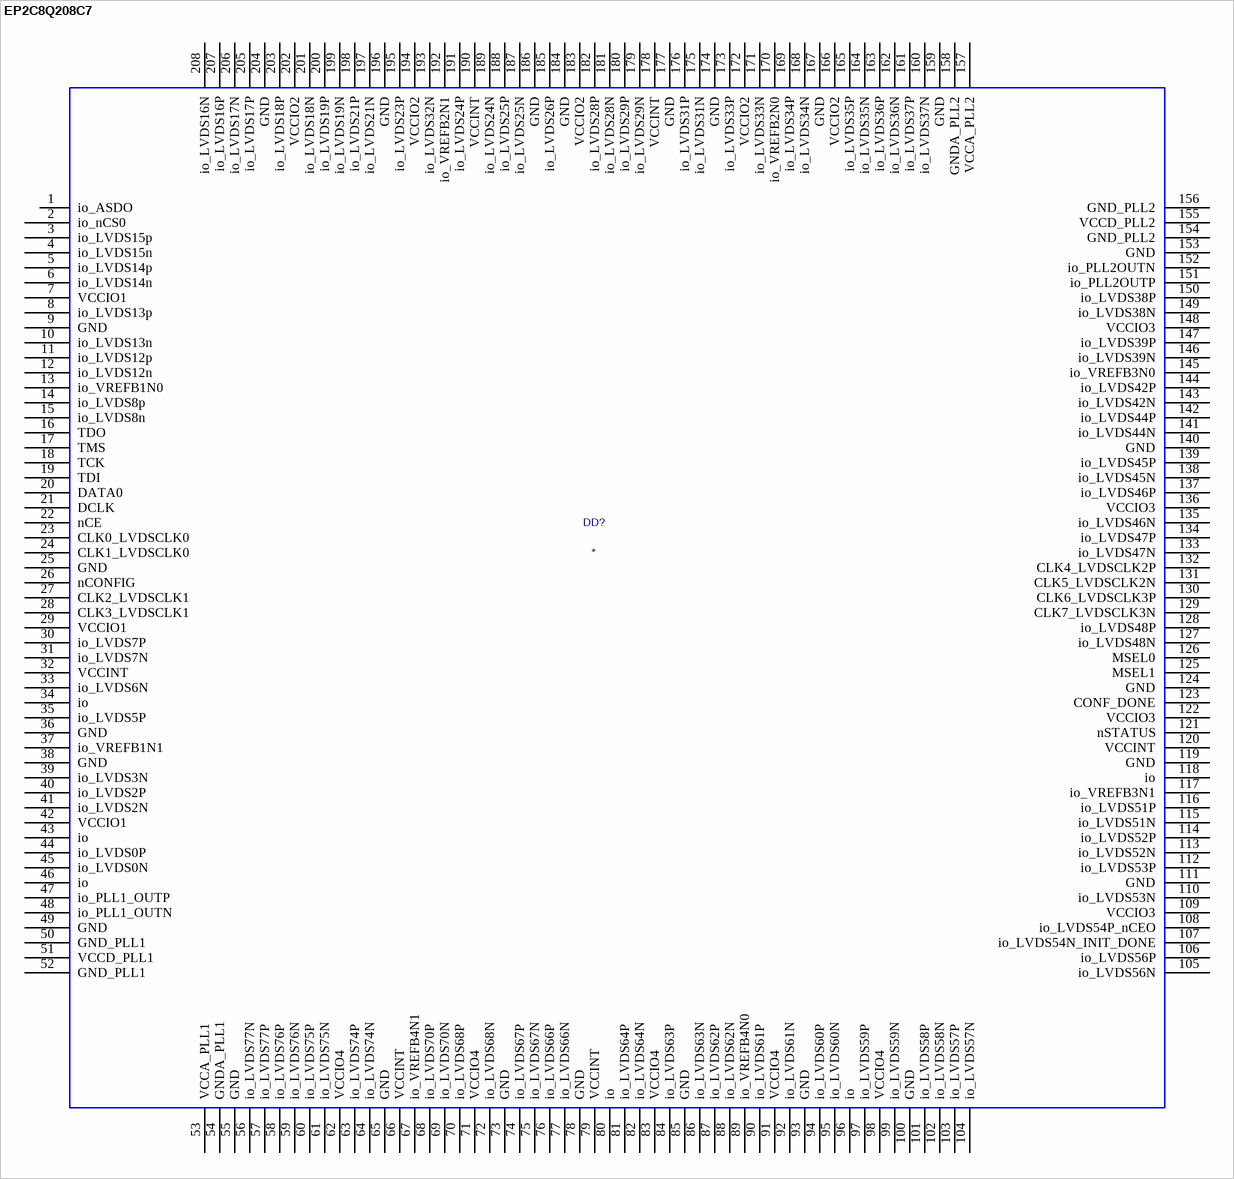
[diagram p10: symbol EP2C8Q208C7]

## EP2C8Q208C7
designator DD?
EP2C8Q208C7; Value: *
footprint PQFP208
pins: 1 io_ASDO, 2 io_nCS0, 3 io_LVDS15p, 4 io_LVDS15n, 5 io_LVDS14p, 6 io_LVDS14n, 7 VCCIO1, 8 io_LVDS13p, 9 GND, 10 io_LVDS13n, 11 io_LVDS12p, 12 io_LVDS12n, 13 io_VREFB1N0, 14 io_LVDS8p, 15 io_LVDS8n, 16 TDO, 17 TMS, 18 TCK, 19 TDI, 20 DATA0, 21 DCLK, 22 nCE, 23 CLK0_LVDSCLK0, 24 CLK1_LVDSCLK0, 25 GND, 26 nCONFIG, 27 CLK2_LVDSCLK1, 28 CLK3_LVDSCLK1, 29 VCCIO1, 30 io_LVDS7P, 31 io_LVDS7N, 32 VCCINT, 33 io_LVDS6N, 34 io, 35 io_LVDS5P, 36 GND, 37 io_VREFB1N1, 38 GND, 39 io_LVDS3N, 40 io_LVDS2P, 41 io_LVDS2N, 42 VCCIO1, 43 io, 44 io_LVDS0P, 45 io_LVDS0N, 46 io, 47 io_PLL1_OUTP, 48 io_PLL1_OUTN, 49 GND, 50 GND_PLL1, 51 VCCD_PLL1, 52 GND_PLL1, 53 VCCA_PLL1, 54 GNDA_PLL1, 55 GND, 56 io_LVDS77N, 57 io_LVDS77P, 58 io_LVDS76P, 59 io_LVDS76N, 60 io_LVDS75P, 61 io_LVDS75N, 62 VCCIO4, 63 io_LVDS74P, 64 io_LVDS74N, 65 GND, 66 VCCINT, 67 io_VREFB4N1, 68 io_LVDS70P, 69 io_LVDS70N, 70 io_LVDS68P, 71 VCCIO4, 72 io_LVDS68N, 73 GND, 74 io_LVDS67P, 75 io_LVDS67N, 76 io_LVDS66P, 77 io_LVDS66N, 78 GND, 79 VCCINT, 80 io, 81 io_LVDS64P, 82 io_LVDS64N, 83 VCCIO4, 84 io_LVDS63P, 85 GND, 86 io_LVDS63N, 87 io_LVDS62P, 88 io_LVDS62N, 89 io_VREFB4N0, 90 io_LVDS61P, 91 VCCIO4, 92 io_LVDS61N, 93 GND, 94 io_LVDS60P, 95 io_LVDS60N, 96 io, 97 io_LVDS59P, 98 VCCIO4, 99 io_LVDS59N, 100 GND, 101 io_LVDS58P, 102 io_LVDS58N, 103 io_LVDS57P, 104 io_LVDS57N, 105 io_LVDS56N, 106 io_LVDS56P, 107 io_LVDS54N_INIT_DONE, 108 io_LVDS54P_nCEO, 109 VCCIO3, 110 io_LVDS53N, 111 GND, 112 io_LVDS53P, 113 io_LVDS52N, 114 io_LVDS52P, 115 io_LVDS51N, 116 io_LVDS51P, 117 io_VREFB3N1, 118 io, 119 GND, 120 VCCINT, 121 nSTATUS, 122 VCCIO3, 123 CONF_DONE, 124 GND, 125 MSEL1, 126 MSEL0, 127 io_LVDS48N, 128 io_LVDS48P, 129 CLK7_LVDSCLK3N, 130 CLK6_LVDSCLK3P, 131 CLK5_LVDSCLK2N, 132 CLK4_LVDSCLK2P, 133 io_LVDS47N, 134 io_LVDS47P, 135 io_LVDS46N, 136 VCCIO3, 137 io_LVDS46P, 138 io_LVDS45N, 139 io_LVDS45P, 140 GND, 141 io_LVDS44N, 142 io_LVDS44P, 143 io_LVDS42N, 144 io_LVDS42P, 145 io_VREFB3N0, 146 io_LVDS39N, 147 io_LVDS39P, 148 VCCIO3, 149 io_LVDS38N, 150 io_LVDS38P, 151 io_PLL2OUTP, 152 io_PLL2OUTN, 153 GND, 154 GND_PLL2, 155 VCCD_PLL2, 156 GND_PLL2, 157 VCCA_PLL2, 158 GNDA_PLL2, 159 GND, 160 io_LVDS37N, 161 io_LVDS37P, 162 io_LVDS36N, 163 io_LVDS36P, 164 io_LVDS35N, 165 io_LVDS35P, 166 VCCIO2, 167 GND, 168 io_LVDS34N, 169 io_LVDS34P, 170 io_VREFB2N0, 171 io_LVDS33N, 172 VCCIO2, 173 io_LVDS33P, 174 GND, 175 io_LVDS31N, 176 io_LVDS31P, 177 GND, 178 VCCINT, 179 io_LVDS29N, 180 io_LVDS29P, 181 io_LVDS28N, 182 io_LVDS28P, 183 VCCIO2, 184 GND, 185 io_LVDS26P, 186 GND, 187 io_LVDS25N, 188 io_LVDS25P, 189 io_LVDS24N, 190 VCCINT, 191 io_LVDS24P, 192 io_VREFB2N1, 193 io_LVDS32N, 194 VCCIO2, 195 io_LVDS23P, 196 GND, 197 io_LVDS21N, 198 io_LVDS21P, 199 io_LVDS19N, 200 io_LVDS19P, 201 io_LVDS18N, 202 VCCIO2, 203 io_LVDS18P, 204 GND, 205 io_LVDS17P, 206 io_LVDS17N, 207 io_LVDS16P, 208 io_LVDS16N

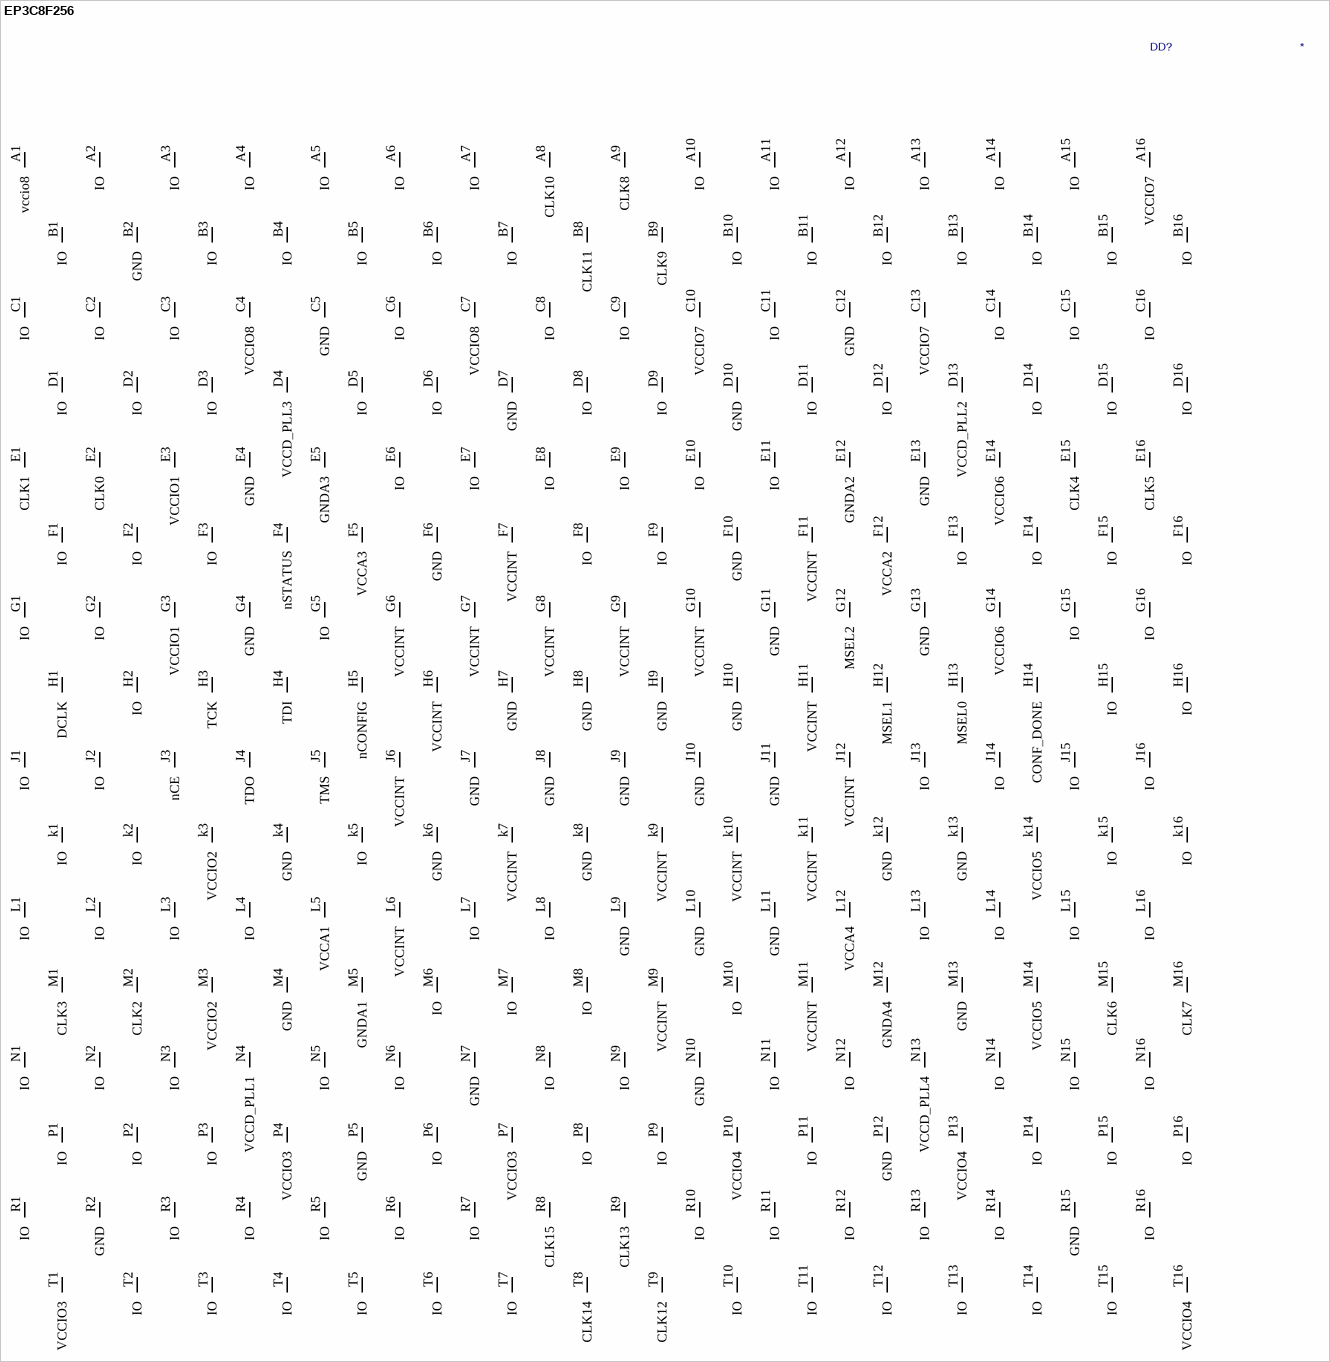
[diagram p11: symbol EP3C8F256]

## EP3C8F256
designator DD?
EP3C8F256; Value: *
footprint EP3C256_EP3C8F256(Primary)
pins: A1 vccio8, A2 IO, A3 IO, A4 IO, A5 IO, A6 IO, A7 IO, A8 CLK10, A9 CLK8, A10 IO, A11 IO, A12 IO, A13 IO, A14 IO, A15 IO, A16 VCCIO7, B1 IO, B2 GND, B3 IO, B4 IO, B5 IO, B6 IO, B7 IO, B8 CLK11, B9 CLK9, B10 IO, B11 IO, B12 IO, B13 IO, B14 IO, B15 IO, B16 IO, C1 IO, C2 IO, C3 IO, C4 VCCIO8, C5 GND, C6 IO, C7 VCCIO8, C8 IO, C9 IO, C10 VCCIO7, C11 IO, C12 GND, C13 VCCIO7, C14 IO, C15 IO, C16 IO, D1 IO, D2 IO, D3 IO, D4 VCCD_PLL3, D5 IO, D6 IO, D7 GND, D8 IO, D9 IO, D10 GND, D11 IO, D12 IO, D13 VCCD_PLL2, D14 IO, D15 IO, D16 IO, E1 CLK1, E2 CLK0, E3 VCCIO1, E4 GND, E5 GNDA3, E6 IO, E7 IO, E8 IO, E9 IO, E10 IO, E11 IO, E12 GNDA2, E13 GND, E14 VCCIO6, E15 CLK4, E16 CLK5, F1 IO, F2 IO, F3 IO, F4 nSTATUS, F5 VCCA3, F6 GND, F7 VCCINT, F8 IO, F9 IO, F10 GND, F11 VCCINT, F12 VCCA2, F13 IO, F14 IO, F15 IO, F16 IO, G1 IO, G2 IO, G3 VCCIO1, G4 GND, G5 IO, G6 VCCINT, G7 VCCINT, G8 VCCINT, G9 VCCINT, G10 VCCINT, G11 GND, G12 MSEL2, G13 GND, G14 VCCIO6, G15 IO, G16 IO, H1 DCLK, H2 IO, H3 TCK, H4 TDI, H5 nCONFIG, H6 VCCINT, H7 GND, H8 GND, H9 GND, H10 GND, H11 VCCINT, H12 MSEL1, H13 MSEL0, H14 CONF_DONE, H15 IO, H16 IO, J1 IO, J2 IO, J3 nCE, J4 TDO, J5 TMS, J6 VCCINT, J7 GND, J8 GND, J9 GND, J10 GND, J11 GND, J12 VCCINT, J13 IO, J14 IO, J15 IO, J16 IO, k1 IO, k2 IO, k3 VCCIO2, k4 GND, k5 IO, k6 GND, k7 VCCINT, k8 GND, k9 VCCINT, k10 VCCINT, k11 VCCINT, k12 GND, k13 GND, k14 VCCIO5, k15 IO, k16 IO, L1 IO, L2 IO, L3 IO, L4 IO, L5 VCCA1, L6 VCCINT, L7 IO, L8 IO, L9 GND, L10 GND, L11 GND, L12 VCCA4, L13 IO, L14 IO, L15 IO, L16 IO, M1 CLK3, M2 CLK2, M3 VCCIO2, M4 GND, M5 GNDA1, M6 IO, M7 IO, M8 IO, M9 VCCINT, M10 IO, M11 VCCINT, M12 GNDA4, M13 GND, M14 VCCIO5, M15 CLK6, M16 CLK7, N1 IO, N2 IO, N3 IO, N4 VCCD_PLL1, N5 IO, N6 IO, N7 GND, N8 IO, N9 IO, N10 GND, N11 IO, N12 IO, N13 VCCD_PLL4, N14 IO, N15 IO, N16 IO, P1 IO, P2 IO, P3 IO, P4 VCCIO3, P5 GND, P6 IO, P7 VCCIO3, P8 IO, P9 IO, P10 VCCIO4, P11 IO, P12 GND, P13 VCCIO4, P14 IO, P15 IO, P16 IO, R1 IO, R2 GND, R3 IO, R4 IO, R5 IO, R6 IO, R7 IO, R8 CLK15, R9 CLK13, R10 IO, R11 IO, R12 IO, R13 IO, R14 IO, R15 GND, R16 IO, T1 VCCIO3, T2 IO, T3 IO, T4 IO, T5 IO, T6 IO, T7 IO, T8 CLK14, T9 CLK12, T10 IO, T11 IO, T12 IO, T13 IO, T14 IO, T15 IO, T16 VCCIO4

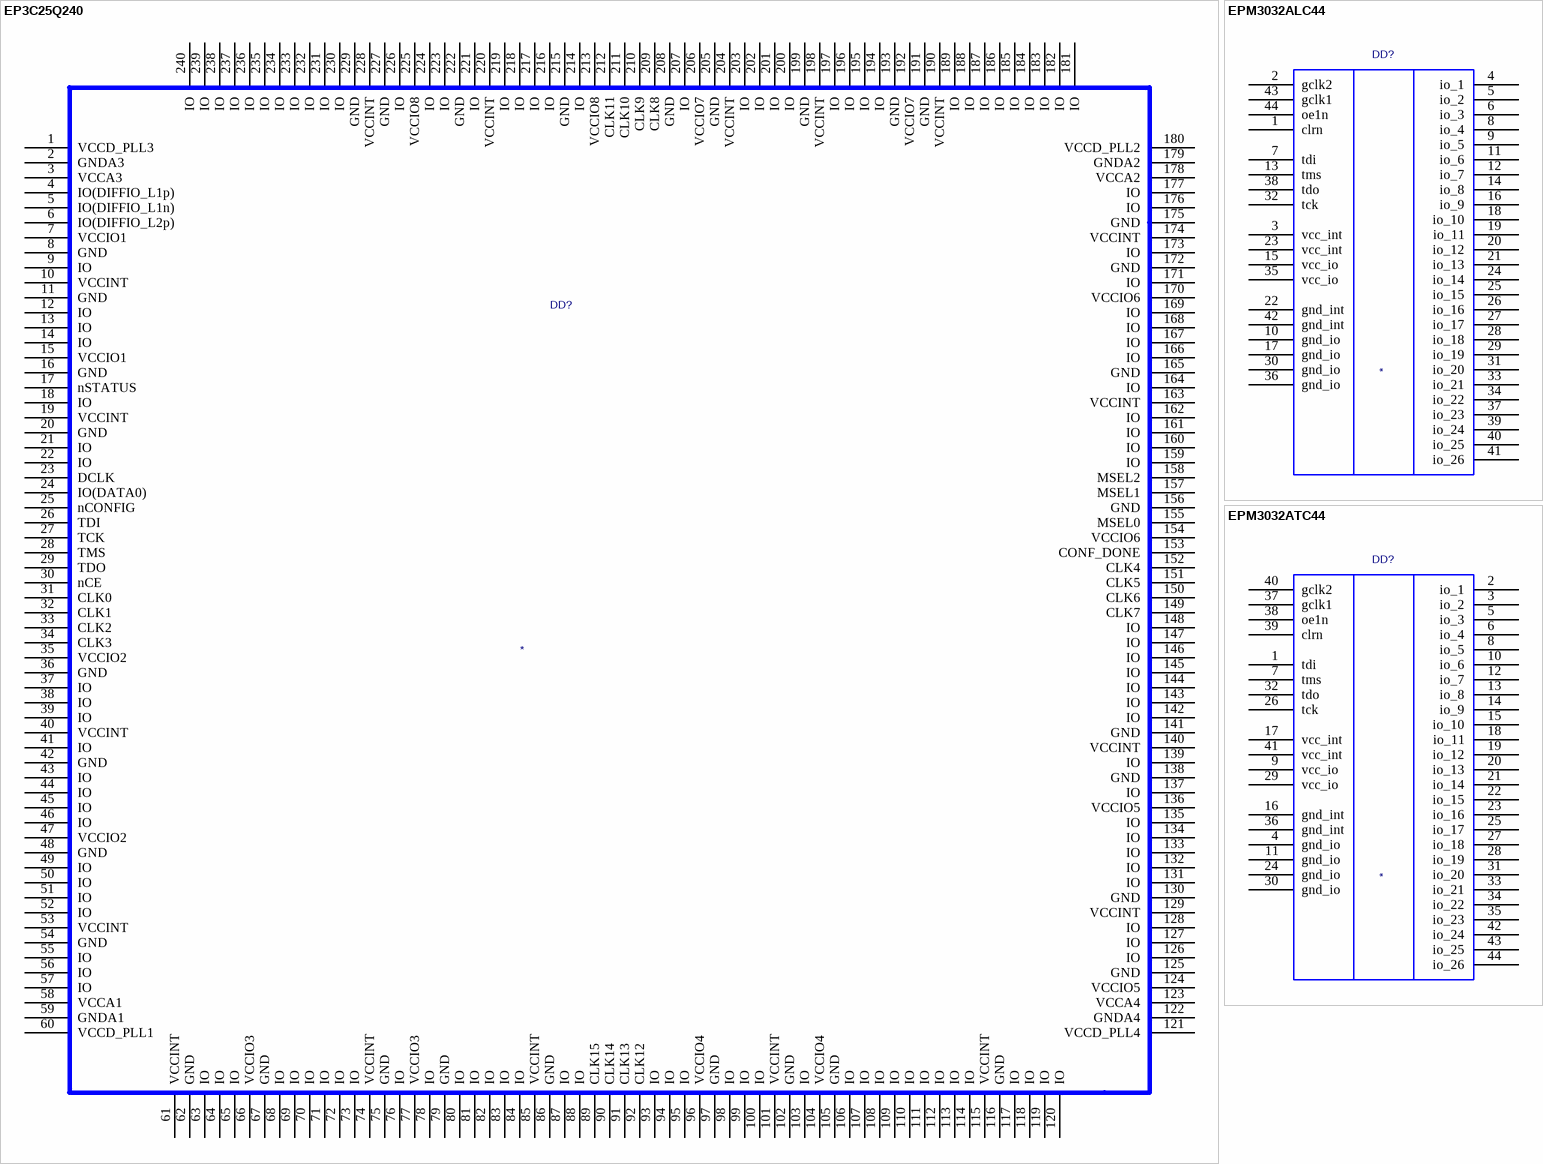
[diagram p12: symbols EP3C25Q240 to EPM3032ATC44]

## EP3C25Q240
designator DD?
EP3C25Q240; Value: *
footprint PQFP240
pins: 1 VCCD_PLL3, 2 GNDA3, 3 VCCA3, 4 IO(DIFFIO_L1p), 5 IO(DIFFIO_L1n), 6 IO(DIFFIO_L2p), 7 VCCIO1, 8 GND, 9 IO, 10 VCCINT, 11 GND, 12 IO, 13 IO, 14 IO, 15 VCCIO1, 16 GND, 17 nSTATUS, 18 IO, 19 VCCINT, 20 GND, 21 IO, 22 IO, 23 DCLK, 24 IO(DATA0), 25 nCONFIG, 26 TDI, 27 TCK, 28 TMS, 29 TDO, 30 nCE, 31 CLK0, 32 CLK1, 33 CLK2, 34 CLK3, 35 VCCIO2, 36 GND, 37 IO, 38 IO, 39 IO, 40 VCCINT, 41 IO, 42 GND, 43 IO, 44 IO, 45 IO, 46 IO, 47 VCCIO2, 48 GND, 49 IO, 50 IO, 51 IO, 52 IO, 53 VCCINT, 54 GND, 55 IO, 56 IO, 57 IO, 58 VCCA1, 59 GNDA1, 60 VCCD_PLL1, 61 VCCINT, 62 GND, 63 IO, 64 IO, 65 IO, 66 VCCIO3, 67 GND, 68 IO, 69 IO, 70 IO, 71 IO, 72 IO, 73 IO, 74 VCCINT, 75 GND, 76 IO, 77 VCCIO3, 78 IO, 79 GND, 80 IO, 81 IO, 82 IO, 83 IO, 84 IO, 85 VCCINT, 86 GND, 87 IO, 88 IO, 89 CLK15, 90 CLK14, 91 CLK13, 92 CLK12, 93 IO, 94 IO, 95 IO, 96 VCCIO4, 97 GND, 98 IO, 99 IO, 100 IO, 101 VCCINT, 102 GND, 103 IO, 104 VCCIO4, 105 GND, 106 IO, 107 IO, 108 IO, 109 IO, 110 IO, 111 IO, 112 IO, 113 IO, 114 IO, 115 VCCINT, 116 GND, 117 IO, 118 IO, 119 IO, 120 IO, 121 VCCD_PLL4, 122 GNDA4, 123 VCCA4, 124 VCCIO5, 125 GND, 126 IO, 127 IO, 128 IO, 129 VCCINT, 130 GND, 131 IO, 132 IO, 133 IO, 134 IO, 135 IO, 136 VCCIO5, 137 IO, 138 GND, 139 IO, 140 VCCINT, 141 GND, 142 IO, 143 IO, 144 IO, 145 IO, 146 IO, 147 IO, 148 IO, 149 CLK7, 150 CLK6, 151 CLK5, 152 CLK4, 153 CONF_DONE, 154 VCCIO6, 155 MSEL0, 156 GND, 157 MSEL1, 158 MSEL2, 159 IO, 160 IO, 161 IO, 162 IO, 163 VCCINT, 164 IO, 165 GND, 166 IO, 167 IO, 168 IO, 169 IO, 170 VCCIO6, 171 IO, 172 GND, 173 IO, 174 VCCINT, 175 GND, 176 IO, 177 IO, 178 VCCA2, 179 GNDA2, 180 VCCD_PLL2, 181 IO, 182 IO, 183 IO, 184 IO, 185 IO, 186 IO, 187 IO, 188 IO, 189 IO, 190 VCCINT, 191 GND, 192 VCCIO7, 193 GND, 194 IO, 195 IO, 196 IO, 197 IO, 198 VCCINT, 199 GND, 200 IO, 201 IO, 202 IO, 203 IO, 204 VCCINT, 205 GND, 206 VCCIO7, 207 IO, 208 GND, 209 CLK8, 210 CLK9, 211 CLK10, 212 CLK11, 213 VCCIO8, 214 IO, 215 GND, 216 IO, 217 IO, 218 IO, 219 IO, 220 VCCINT, 221 IO, 222 GND, 223 IO, 224 IO, 225 VCCIO8, 226 IO, 227 GND, 228 VCCINT, 229 GND, 230 IO, 231 IO, 232 IO, 233 IO, 234 IO, 235 IO, 236 IO, 237 IO, 238 IO, 239 IO, 240 IO

## EPM3032ALC44
designator DD?
EPM3032ALC44; Value: *
footprint PLCCSOCKET44
pins: 1 clrn, 2 gclk2, 3 vcc_int, 4 io_1, 5 io_2, 6 io_3, 7 tdi, 8 io_4, 9 io_5, 10 gnd_io, 11 io_6, 12 io_7, 13 tms, 14 io_8, 15 vcc_io, 16 io_9, 17 gnd_io, 18 io_10, 19 io_11, 20 io_12, 21 io_13, 22 gnd_int, 23 vcc_int, 24 io_14, 25 io_15, 26 io_16, 27 io_17, 28 io_18, 29 io_19, 30 gnd_io, 31 io_20, 32 tck, 33 io_21, 34 io_22, 35 vcc_io, 36 gnd_io, 37 io_23, 38 tdo, 39 io_24, 40 io_25, 41 io_26, 42 gnd_int, 43 gclk1, 44 oe1n

## EPM3032ATC44
designator DD?
EPM3032ATC44; Value: *
footprint TQFP44
pins: 1 tdi, 2 io_1, 3 io_2, 4 gnd_io, 5 io_3, 6 io_4, 7 tms, 8 io_5, 9 vcc_io, 10 io_6, 11 gnd_io, 12 io_7, 13 io_8, 14 io_9, 15 io_10, 16 gnd_int, 17 vcc_int, 18 io_11, 19 io_12, 20 io_13, 21 io_14, 22 io_15, 23 io_16, 24 gnd_io, 25 io_17, 26 tck, 27 io_18, 28 io_19, 29 vcc_io, 30 gnd_io, 31 io_20, 32 tdo, 33 io_21, 34 io_22, 35 io_23, 36 gnd_int, 37 gclk1, 38 oe1n, 39 clrn, 40 gclk2, 41 vcc_int, 42 io_24, 43 io_25, 44 io_26

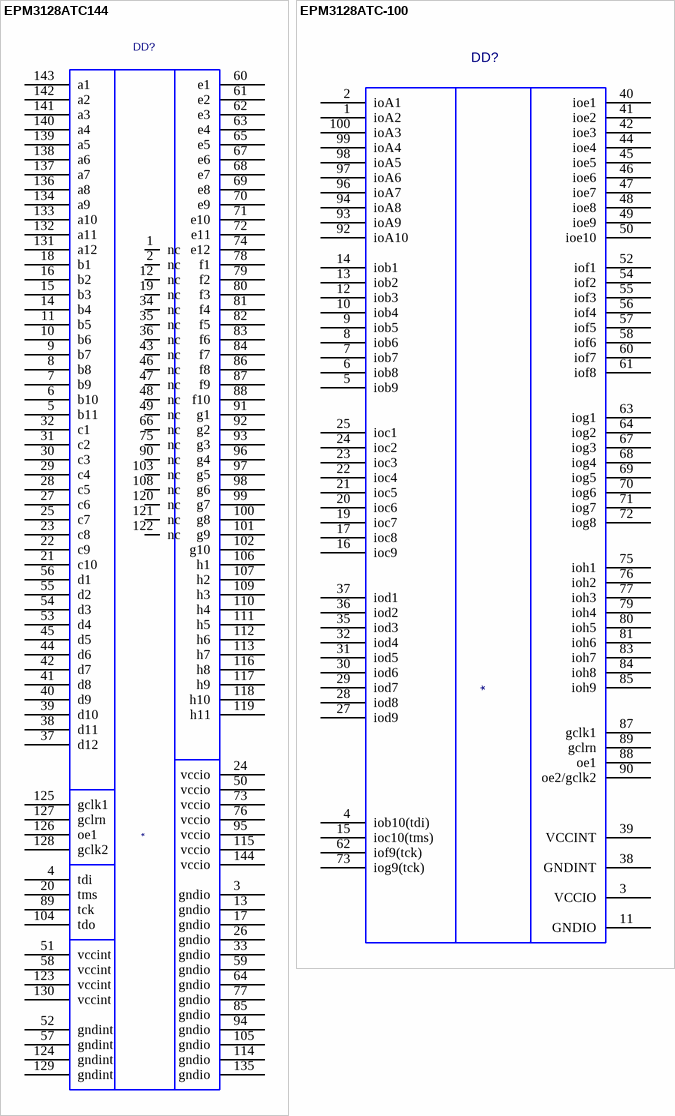
[diagram p13: symbols EPM3128ATC144 to EPM3128ATC-100]